# Altium schematic symbol library Schlib_Altera.SchLib: 17 symbols (part 3 of 4)
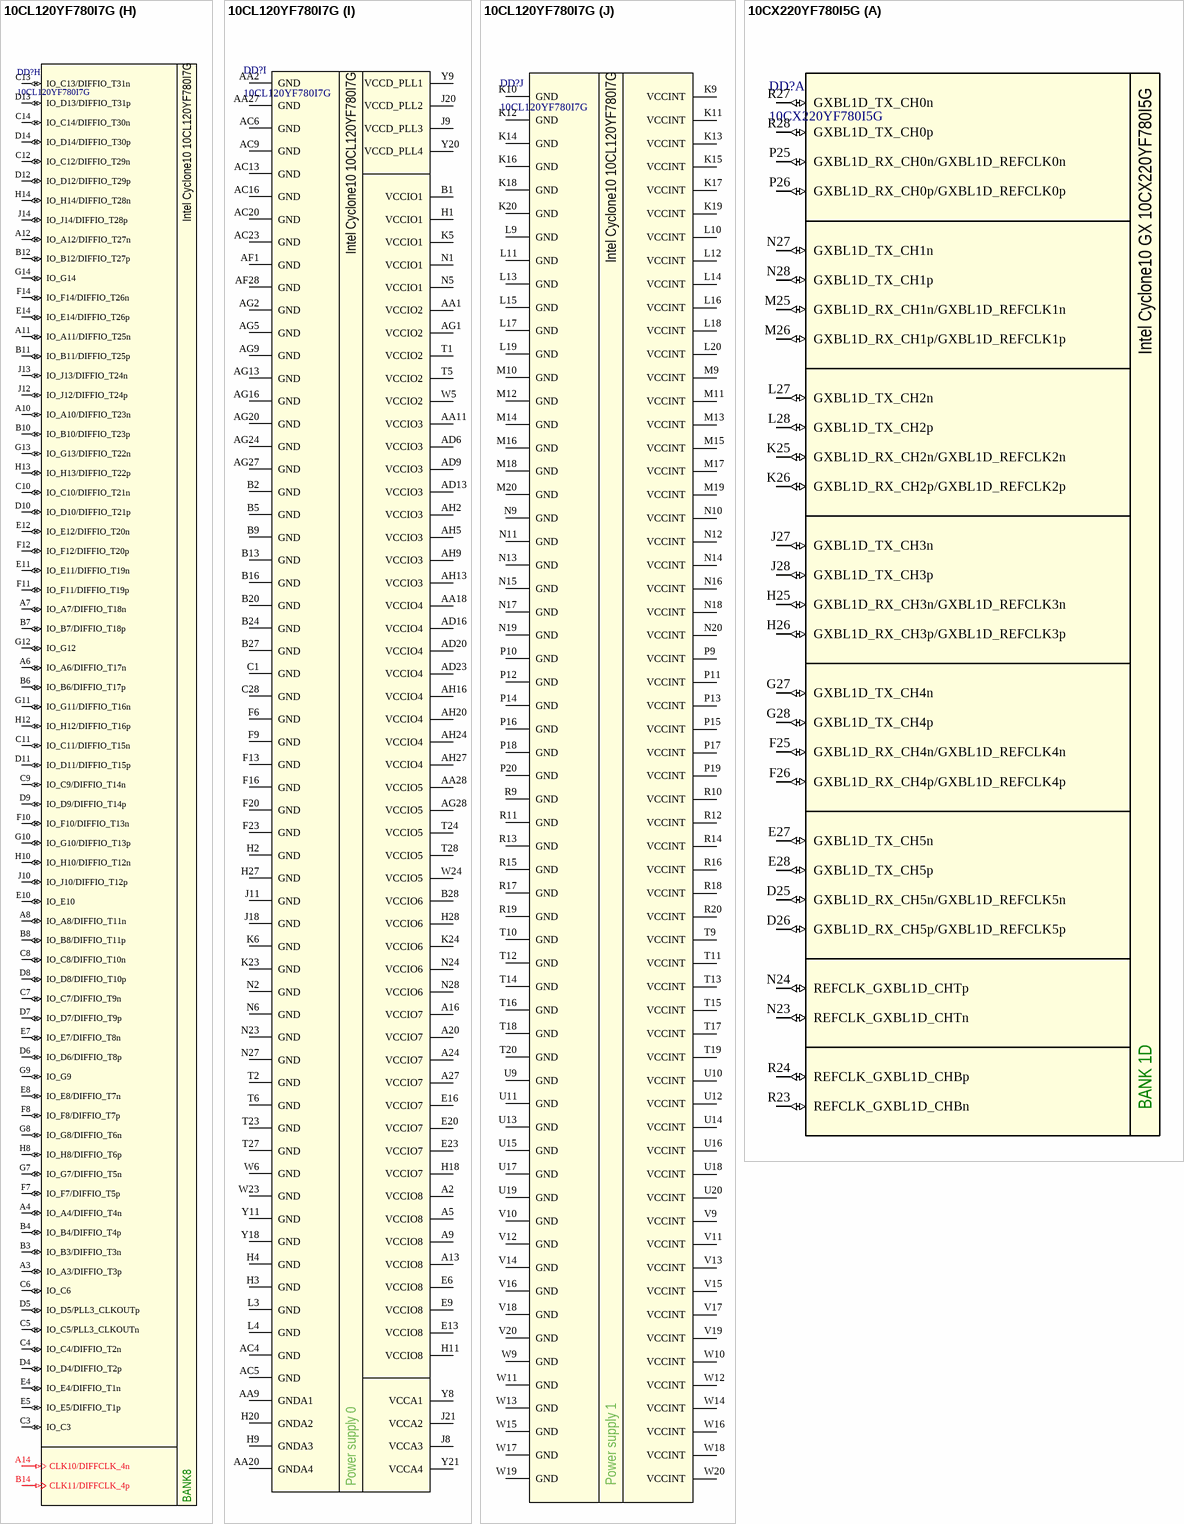
[diagram p26: symbols 10CL120YF780I7G to 10CX220YF780I5G]

## 10CL120YF780I7G
designator DD?
Intel Cyclone 10 FPGA with 120k LEs; Manufacturer: Altera/Intel; Package: FBGA-780; Part Number: 10CL120YF780I7G
footprint FBGA-780 (BGA, 780-Balls, Body 29x29mm, Pitch 1mm)
part A pins: C2 IO_C2/DIFFIO_L1n (io), D1 IO_D1/DIFFIO_L2n (io), D2 IO_D2/DIFFIO_L2p (io), D3 IO_D3/DIFFIO_L1p (io), E1 IO_E1/DIFFIO_L8n (io), E2 IO_E2/DIFFIO_L8p (io), E3 IO_E3/DIFFIO_L4p (io), F1 IO_F1/DIFFIO_L9n (io), F2 IO_F2/DIFFIO_L9p (io), F3 IO_F3/DIFFIO_L4n (io), F4 IO_F4/DIFFIO_L5n (io), F5 IO_F5/DIFFIO_L5p (io), G1 IO_G1/DIFFIO_L11n (io), G2 IO_G2/DIFFIO_L11p (io), G3 IO_G3/DIFFIO_L6n (io), G4 IO_G4/DIFFIO_L6p (io), G5 IO_G5/DIFFIO_L3n (io), G6 IO_G6/DIFFIO_L3p (io), H5 IO_H5 (io), H6 IO_H6 (io), H7 IO_H7 (io), J1 CLK1/DIFFCLK_0n (in), J2 CLK0/DIFFCLK_0p (in), J3 IO_J3/DIFFIO_L10n (io), J4 IO_J4/DIFFIO_L10p (io), J5 IO_J5/DIFFIO_L16n (io), J6 IO_J6/DIFFIO_L16p (io), J7 IO_J7/DIFFIO_L17p (io), K1 IO_K1/DIFFIO_L12n (io), K2 IO_K2/DIFFIO_L12p (io), K3 IO_K3/DIFFIO_L13n (io), K4 IO_K4/DIFFIO_L13p (io), K7 IO_K7/DIFFIO_L17n (io), K8 IO_K8/DIFFIO_L18p (io), L1 IO_L1/DIFFIO_L22n (io), L2 IO_L2/DIFFIO_L22p (io), L5 IO_L5 (io), L6 IO_L6/DIFFIO_L19n (io), L7 IO_L7/DIFFIO_L19p (io), L8 IO_L8/DIFFIO_L18n (io), M1 IO_M1/DIFFIO_L23n (io), M2 IO_M2/DIFFIO_L23p (io), M3 IO_M3/DIFFIO_L15n (io), M4 IO_M4/DIFFIO_L15p (io), M5 IO_M5 (io), M6 nSTATUS (io), M7 IO_M7/DIFFIO_L21n (io), M8 IO_M8/DIFFIO_L21p (io), N3 IO_N3/DIFFIO_L20n (io), N4 IO_N4/DIFFIO_L20p (io), N7 IO_N7/DATA0 (io), N8 IO_N8 (io), P1 IO_P1/DIFFIO_L24n (io), P2 IO_P2/DIFFIO_L24p (io), P3 IO_P3/DCLK (io), P4 nCONFIG (io), P5 TCK (io), P6 TDO (io), P7 TDI (io), P8 TMS (io), R8 nCE (io)
part B pins: AA3 IO_AA3/DIFFIO_L40n (io), AA4 IO_AA4/DIFFIO_L40p (io), AA5 IO_AA5/DIFFIO_L47n (io), AA6 IO_AA6/DIFFIO_L47p (io), AA7 IO_AA7 (io), AB1 IO_AB1/DIFFIO_L33n (io), AB2 IO_AB2/DIFFIO_L33p (io), AB3 IO_AB3 (io), AB4 IO_AB4 (io), AB5 IO_AB5/DIFFIO_L50n (io), AB6 IO_AB6/DIFFIO_L50p (io), AC1 IO_AC1/DIFFIO_L37n (io), AC2 IO_AC2/DIFFIO_L37p (io), AC3 IO_AC3/DIFFIO_L38p (io), AD1 IO_AD1/DIFFIO_L39n (io), AD2 IO_AD2/DIFFIO_L39p (io), AD3 IO_AD3/DIFFIO_L38n (io), AE1 IO_AE1/DIFFIO_L41n (io), AE2 IO_AE2/DIFFIO_L41p (io), AE3 IO_AE3/DIFFIO_L48p (io), AF2 IO_AF2/DIFFIO_L48n (io), R1 IO_R1/DIFFIO_L25n (io), R2 IO_R2/DIFFIO_L25p (io), R3 IO_R3/DIFFIO_L28p (io), R4 IO_R4/DIFFIO_L28n (io), R5 IO_R5 (io), R6 IO_R6/DIFFIO_L26n (io), R7 IO_R7/DIFFIO_L26p (io), T3 IO_T3/DIFFIO_L29n (io), T4 IO_T4/DIFFIO_L29p (io), T7 IO_T7 (io), T8 IO_T8 (io), U1 IO_U1/DIFFIO_L30n (io), U2 IO_U2/DIFFIO_L30p (io), U3 IO_U3/DIFFIO_L27p (io), U4 IO_U4/DIFFIO_L27n (io), U5 IO_U5/DIFFIO_L35n (io), U6 IO_U6/DIFFIO_L35p (io), U7 IO_U7 (io), U8 IO_U8 (io), V1 IO_V1/DIFFIO_L32n (io), V2 IO_V2/DIFFIO_L32p (io), V3 IO_V3/DIFFIO_L31n (io), V4 IO_V4/DIFFIO_L31p (io), V5 IO_V5/DIFFIO_L42n (io), V6 IO_V6/DIFFIO_L42p (io), V7 IO_V7/DIFFIO_L43n (io), V8 IO_V8/DIFFIO_L43p (io), W1 IO_W1/DIFFIO_L34n (io), W2 IO_W2/DIFFIO_L34p (io), W3 IO_W3/DIFFIO_L44n (io), W4 IO_W4/DIFFIO_L44p (io), W7 IO_W7 (io), W8 IO_W8/DIFFIO_L46p (io), Y1 CLK3/DIFFCLK_1n (in), Y2 CLK2/DIFFCLK_1p (in), Y3 IO_Y3/DIFFIO_L36n (io), Y4 IO_Y4/DIFFIO_L36p (io), Y5 IO_Y5/DIFFIO_L45n (io), Y6 IO_Y6/DIFFIO_L45p (io), Y7 IO_Y7/DIFFIO_L46n (io)
part C pins: AA8 IO_AA8/DIFFIO_B11p (io), AA10 IO_AA10/DIFFIO_B11n (io), AA12 IO_AA12/DIFFIO_B25n (io), AA13 IO_AA13/DIFFIO_B26n (io), AA14 IO_AA14/DIFFIO_B27p (io), AB7 IO_AB7/DIFFIO_B10p (io), AB8 IO_AB8/DIFFIO_B8n (io), AB9 IO_AB9/DIFFIO_B8p (io), AB10 IO_AB10/DIFFIO_B19p (io), AB11 IO_AB11 (io), AB12 IO_AB12/DIFFIO_B22n (io), AB13 IO_AB13 (io), AB14 IO_AB14/DIFFIO_B27n (io), AC7 IO_AC7/DIFFIO_B6n (io), AC8 IO_AC8/DIFFIO_B10n (io), AC10 IO_AC10/DIFFIO_B19n (io), AC11 IO_AC11/DIFFIO_B24p (io), AC12 IO_AC12/DIFFIO_B22p (io), AC14 IO_AC14/DIFFIO_B29p (io), AD4 IO_AD4/DIFFIO_B2p (io), AD5 IO_AD5/DIFFIO_B1p (io), AD7 IO_AD7 (io), AD8 IO_AD8/DIFFIO_B6p (io), AD10 IO_AD10 (io), AD11 IO_AD11/DIFFIO_B24n (io), AD12 IO_AD12 (io), AD14 IO_AD14/DIFFIO_B29n (io), AE4 IO_AE4/DIFFIO_B3p (io), AE5 IO_AE5 (io), AE6 IO_AE6/DIFFIO_B1n (io), AE7 IO_AE7/DIFFIO_B13p (io), AE8 IO_AE8/DIFFIO_B14p (io), AE9 IO_AE9 (io), AE10 IO_AE10/DIFFIO_B15p (io), AE11 IO_AE11/DIFFIO_B18p (io), AE12 IO_AE12/DIFFIO_B17p (io), AE13 IO_AE13/DIFFIO_B21p (io), AE14 IO_AE14/DIFFIO_B23p (io), AF3 IO_AF3/DIFFIO_B4n (io), AF4 IO_AF4/DIFFIO_B2n (io), AF5 IO_AF5 (io), AF6 IO_AF6 (io), AF7 IO_AF7/DIFFIO_B13n (io), AF8 IO_AF8/DIFFIO_B14n (io), AF9 IO_AF9 (io), AF10 IO_AF10/DIFFIO_B15n (io), AF11 IO_AF11/DIFFIO_B18n (io), AF12 IO_AF12/DIFFIO_B17n (io), AF13 IO_AF13/DIFFIO_B21n (io), AF14 IO_AF14/DIFFIO_B23n (io), AG3 IO_AG3/DIFFIO_B3n (io), AG4 IO_AG4/DIFFIO_B5p (io), AG6 IO_AG6/DIFFIO_B7p (io), AG7 IO_AG7/DIFFIO_B9p (io), AG8 IO_AG8/DIFFIO_B12p (io), AG10 IO_AG10/DIFFIO_B16p (io), AG11 IO_AG11/DIFFIO_B20p (io), AG12 IO_AG12/DIFFIO_B28p (io), AG14 CLK15/DIFFCLK_6p (in), AH3 IO_AH3/DIFFIO_B4p (io), AH4 IO_AH4/DIFFIO_B5n (io), AH6 IO_AH6/DIFFIO_B7n (io), AH7 IO_AH7/DIFFIO_B9n (io), AH8 IO_AH8/DIFFIO_B12n (io), AH10 IO_AH10/DIFFIO_B16n (io), AH11 IO_AH11/DIFFIO_B20n (io), AH12 IO_AH12/DIFFIO_B28n (io), AH14 CLK14/DIFFCLK_6n (in), Y10 IO_Y10 (io), Y12 IO_Y12/DIFFIO_B25p (io), Y13 IO_Y13/DIFFIO_B26p (io), Y14 IO_Y14/DIFFIO_B30p (io), Y15 IO_Y15/DIFFIO_B30n (io)
part D pins: AA15 IO_AA15 (io), AA16 IO_AA16/DIFFIO_B35p (io), AA17 IO_AA17/RUP2 (io), AA19 IO_AA19/DIFFIO_B56n (io), AA21 IO_AA21 (io), AB15 IO_AB15 (io), AB16 IO_AB16/DIFFIO_B35n (io), AB17 IO_AB17/RDN2 (io), AB18 IO_AB18/DIFFIO_B53n (io), AB19 IO_AB19/DIFFIO_B53p (io), AB20 IO_AB20 (io), AB21 IO_AB21/DIFFIO_B57n (io), AB22 IO_AB22/DIFFIO_B57p (io), AC15 IO_AC15/DIFFIO_B31p (io), AC17 IO_AC17/DIFFIO_B39p (io), AC18 IO_AC18 (io), AC19 IO_AC19/DIFFIO_B50p (io), AC21 IO_AC21/DIFFIO_B55p (io), AC22 IO_AC22/DIFFIO_B58p (io), AD15 IO_AD15/DIFFIO_B31n (io), AD17 IO_AD17/DIFFIO_B39n (io), AD18 IO_AD18 (io), AD19 IO_AD19/DIFFIO_B50n (io), AD21 IO_AD21/DIFFIO_B55n (io), AD22 IO_AD22/DIFFIO_B58n (io), AD24 IO_AD24 (io), AD25 IO_AD25/DIFFIO_B54p (io), AE15 IO_AE15/DIFFIO_B32p (io), AE16 IO_AE16/DIFFIO_B34p (io), AE17 IO_AE17/DIFFIO_B36p (io), AE18 IO_AE18/DIFFIO_B41p (io), AE19 IO_AE19/DIFFIO_B44p (io), AE20 IO_AE20/DIFFIO_B46p (io), AE21 IO_AE21/DIFFIO_B47p (io), AE22 IO_AE22/DIFFIO_B52p (io), AE23 IO_AE23 (io), AE24 IO_AE24/DIFFIO_B54n (io), AE25 IO_AE25/DIFFIO_B48p (io), AF15 IO_AF15/DIFFIO_B32n (io), AF16 IO_AF16/DIFFIO_B34n (io), AF17 IO_AF17/DIFFIO_B36n (io), AF18 IO_AF18/DIFFIO_B41n (io), AF19 IO_AF19/DIFFIO_B44n (io), AF20 IO_AF20/DIFFIO_B46n (io), AF21 IO_AF21/DIFFIO_B47n (io), AF22 IO_AF22/DIFFIO_B52n (io), AF23 IO_AF23 (io), AF24 IO_AF24/DIFFIO_B45p (io), AF25 IO_AF25/DIFFIO_B45n (io), AF26 IO_AF26/DIFFIO_B48n (io), AG15 CLK13/DIFFCLK_7p (in), AG17 IO_AG17/DIFFIO_B33p (io), AG18 IO_AG18/DIFFIO_B37p (io), AG19 IO_AG19/DIFFIO_B38p (io), AG21 IO_AG21/DIFFIO_B40p (io), AG22 IO_AG22/DIFFIO_B42p (io), AG23 IO_AG23/DIFFIO_B43p (io), AG25 IO_AG25/DIFFIO_B49p (io), AG26 IO_AG26/DIFFIO_B59p (io), AH15 CLK12/DIFFCLK_7n (in), AH17 IO_AH17/DIFFIO_B33n (io), AH18 IO_AH18/DIFFIO_B37n (io), AH19 IO_AH19/DIFFIO_B38n (io), AH21 IO_AH21/DIFFIO_B40n (io), AH22 IO_AH22/DIFFIO_B42n (io), AH23 IO_AH23/DIFFIO_B43n (io), AH25 IO_AH25/DIFFIO_B49n (io), AH26 IO_AH26/DIFFIO_B59n (io), Y16 IO_Y16/DIFFIO_B51n (io), Y17 IO_Y17/DIFFIO_B51p (io), Y19 IO_Y19/DIFFIO_B56p (io)
part E pins: AA22 IO_AA22/RUP3 (io), AA23 IO_AA23 (io), AA24 IO_AA24 (io), AA25 IO_AA25/DIFFIO_R43p (io), AA26 IO_AA26/DIFFIO_R43n (io), AB23 IO_AB23/RDN3 (io), AB24 IO_AB24 (io), AB25 IO_AB25/DIFFIO_R44p (io), AB26 IO_AB26/DIFFIO_R44n (io), AB27 IO_AB27/DIFFIO_R42p (io), AB28 IO_AB28/DIFFIO_R42n (io), AC24 IO_AC24/DIFFIO_R51p (io), AC25 IO_AC25/DIFFIO_R51n (io), AC26 IO_AC26/DIFFIO_R49p (io), AC27 IO_AC27/DIFFIO_R45p (io), AC28 IO_AC28/DIFFIO_R45n (io), AD26 IO_AD26/DIFFIO_R49n (io), AD27 IO_AD27/DIFFIO_R47p (io), AD28 IO_AD28/DIFFIO_R47n (io), AE26 IO_AE26/DIFFIO_R50p (io), AE27 IO_AE27/DIFFIO_R48p (io), AE28 IO_AE28/DIFFIO_R48n (io), AF27 IO_AF27/DIFFIO_R50n (io), P21 IO_P21/DIFFIO_R25p (io), R21 IO_R21/DIFFIO_R25n (io), R22 IO_R22/DIFFIO_R26p (io), R23 IO_R23/DIFFIO_R26n (io), R24 IO_R24 (io), R25 IO_R25/DIFFIO_R28p (io), R26 IO_R26/DIFFIO_R28n (io), R27 IO_R27/DIFFIO_R27p (io), R28 IO_R28/DIFFIO_R27n (io), T21 IO_T21/DIFFIO_R29p (io), T22 IO_T22/DIFFIO_R29n (io), T25 IO_T25/DIFFIO_R30p (io), T26 IO_T26/DIFFIO_R30n (io), U21 IO_U21 (io), U22 IO_U22/DIFFIO_R34p (io), U23 IO_U23 (io), U24 IO_U24 (io), U25 IO_U25/DIFFIO_R33p (io), U26 IO_U26/DIFFIO_R33n (io), U27 IO_U27/DIFFIO_R32p (io), U28 IO_U28/DIFFIO_R32n (io), V21 IO_V21/DIFFIO_R35p (io), V22 IO_V22/DIFFIO_R34n (io), V23 IO_V23/DIFFIO_R36p (io), V24 IO_V24/DIFFIO_R36n (io), V25 IO_V25/DIFFIO_R37p (io), V26 IO_V26/DIFFIO_R37n (io), V27 IO_V27/DIFFIO_R38p (io), V28 IO_V28/DIFFIO_R38n (io), W21 IO_W21/DIFFIO_R35n (io), W22 IO_W22/DIFFIO_R31p (io), W25 IO_W25/DIFFIO_R40p (io), W26 IO_W26/DIFFIO_R40n (io), W27 IO_W27/DIFFIO_R39n (io), W28 IO_W28/DIFFIO_R39p (io), Y22 IO_Y22/DIFFIO_R31n (io), Y23 IO_Y23/DIFFIO_R46p (io), Y24 IO_Y24/DIFFIO_R46n (io), Y25 IO_Y25/DIFFIO_R41p (io), Y26 IO_Y26/DIFFIO_R41n (io), Y27 CLK6/DIFFCLK_3p (in), Y28 CLK7/DIFFCLK_3n (in)
part F pins: C27 IO_C27/DIFFIO_R8n (io), D26 IO_D26/DIFFIO_R8p (io), D27 IO_D27/DIFFIO_R9p (io), D28 IO_D28/DIFFIO_R9n (io), E26 IO_E26/DIFFIO_R10n (io), E27 IO_E27/DIFFIO_R12p (io), E28 IO_E28/DIFFIO_R12n (io), F24 IO_F24/DIFFIO_R2p (io), F25 IO_F25/DIFFIO_R2n (io), F26 IO_F26/DIFFIO_R10p (io), F27 IO_F27/DIFFIO_R13p (io), F28 IO_F28/DIFFIO_R13n (io), G23 IO_G23/DIFFIO_R1p (io), G24 IO_G24/DIFFIO_R1n (io), G25 IO_G25/DIFFIO_R3p (io), G26 IO_G26/DIFFIO_R3n (io), G27 IO_G27/DIFFIO_R15p (io), G28 IO_G28/DIFFIO_R15n (io), H22 IO_H22 (io), H23 IO_H23/DIFFIO_R4p (io), H24 IO_H24/DIFFIO_R4n (io), H25 IO_H25/DIFFIO_R11p (io), H26 IO_H26/DIFFIO_R11n (io), J22 IO_J22 (io), J23 IO_J23/DIFFIO_R6p (io), J24 IO_J24/DIFFIO_R6n (io), J25 IO_J25/DIFFIO_R16p (io), J26 IO_J26/DIFFIO_R16n (io), J27 CLK4/DIFFCLK_2p (in), J28 CLK5/DIFFCLK_2n (in), K21 IO_K21/DIFFIO_R5p (io), K22 IO_K22/DIFFIO_R5n (io), K25 IO_K25/DIFFIO_R14p (io), K26 IO_K26/DIFFIO_R14n (io), K27 IO_K27/DIFFIO_R17p (io), K28 IO_K28/DIFFIO_R17n (io), L21 IO_L21/DIFFIO_R7p (io), L22 IO_L22/DIFFIO_R7n (io), L23 IO_L23/DIFFIO_R18p (io), L24 IO_L24/DIFFIO_R18n (io), L25 IO_L25 (io), L26 IO_L26 (io), L27 IO_L27/DIFFIO_R19p (io), L28 IO_L28/DIFFIO_R19n (io), M21 IO_M21 (io), M22 MSEL2 (in), M23 IO_M23 (io), M24 IO_M24 (io), M25 IO_M25/DIFFIO_R20p (io), M26 IO_M26/DIFFIO_R20n (io), M27 IO_M27/DIFFIO_R21p (io), M28 IO_M28/DIFFIO_R21n (io), N21 IO_N21 (io), N22 MSEL0 (in), N25 IO_N25/DIFFIO_R22p (io), N26 IO_N26/DIFFIO_R22n (io), P22 MSEL3 (in), P23 MSEL1 (in), P24 CONF_DONE (out), P25 IO_P25/CRC_ERROR (io), P26 IO_P26/INIT_DONE (io), P27 IO_P27/DIFFIO_R23p (io), P28 IO_P28/DIFFIO_R23n (io)
part G pins: A15 CLK8/DIFFCLK_5n (in), A17 IO_A17/DIFFIO_T35n (io), A18 IO_A18/DIFFIO_T44n (io), A19 IO_A19/DIFFIO_T45n (io), A21 IO_A21/DIFFIO_T52n (io), A22 IO_A22/DIFFIO_T53n (io), A23 IO_A23/DIFFIO_T56n (io), A25 IO_A25/DIFFIO_T59p (io), A26 IO_A26/DIFFIO_T59n (io), B15 CLK9/DIFFCLK_5p (in), B17 IO_B17/DIFFIO_T35p (io), B18 IO_B18/DIFFIO_T44p (io), B19 IO_B19/DIFFIO_T45p (io), B21 IO_B21/DIFFIO_T52p (io), B22 IO_B22/DIFFIO_T53p (io), B23 IO_B23/DIFFIO_T56p (io), B25 IO_B25 (io), B26 IO_B26/DIFFIO_T61p (io), C15 IO_C15/DIFFIO_T32n (io), C16 IO_C16/DIFFIO_T36n (io), C17 IO_C17/DIFFIO_T46n (io), C18 IO_C18/DIFFIO_T50n (io), C19 IO_C19/DIFFIO_T47n (io), C20 IO_C20/DIFFIO_T49n (io), C21 IO_C21 (io), C22 IO_C22/DIFFIO_T54n (io), C23 IO_C23 (io), C24 IO_C24/DIFFIO_T55n (io), C25 IO_C25/DIFFIO_T57p (io), C26 IO_C26/DIFFIO_T61n (io), D15 IO_D15/DIFFIO_T32p (io), D16 IO_D16/DIFFIO_T36p (io), D17 IO_D17/DIFFIO_T46p (io), D18 IO_D18/DIFFIO_T50p (io), D19 IO_D19/DIFFIO_T47p (io), D20 IO_D20/DIFFIO_T49p (io), D21 IO_D21/DIFFIO_T54p (io), D22 IO_D22/DIFFIO_T60n (io), D23 IO_D23 (io), D24 IO_D24/DIFFIO_T55p (io), D25 IO_D25/DIFFIO_T57n (io), E15 IO_E15/DIFFIO_T33p (io), E17 IO_E17/DIFFIO_T38p (io), E18 IO_E18/DIFFIO_T51n (io), E19 IO_E19/RDN4 (io), E21 IO_E21/DIFFIO_T58n (io), E22 IO_E22/DIFFIO_T60p (io), E24 IO_E24/DIFFIO_T48n (io), E25 IO_E25/DIFFIO_T48p (io), F15 IO_F15/DIFFIO_T33n (io), F17 IO_F17/DIFFIO_T38n (io), F18 IO_F18/DIFFIO_T51p (io), F19 IO_F19/RUP4 (io), F21 IO_F21/DIFFIO_T58p (io), F22 IO_F22 (io), G15 IO_G15 (io), G16 IO_G16/DIFFIO_T39n (io), G17 IO_G17 (io), G18 IO_G18/DIFFIO_T40p (io), G19 IO_G19/DIFFIO_T40n (io), G20 IO_G20/DIFFIO_T43n (io), G21 IO_G21/DIFFIO_T43p (io), G22 IO_G22/DIFFIO_T41p (io), H15 IO_H15/DIFFIO_T34n (io), H16 IO_H16/DIFFIO_T37p (io), H17 IO_H17/DIFFIO_T39p (io), H19 IO_H19/DIFFIO_T42n (io), H21 IO_H21/DIFFIO_T41n (io), J15 IO_J15/DIFFIO_T34p (io), J16 IO_J16/DIFFIO_T37n (io), J17 IO_J17 (io), J19 IO_J19/DIFFIO_T42p (io)
part H pins: A3 IO_A3/DIFFIO_T3p (io), A4 IO_A4/DIFFIO_T4n (io), A6 IO_A6/DIFFIO_T17n (io), A7 IO_A7/DIFFIO_T18n (io), A8 IO_A8/DIFFIO_T11n (io), A10 IO_A10/DIFFIO_T23n (io), A11 IO_A11/DIFFIO_T25n (io), A12 IO_A12/DIFFIO_T27n (io), A14 CLK10/DIFFCLK_4n (in), B3 IO_B3/DIFFIO_T3n (io), B4 IO_B4/DIFFIO_T4p (io), B6 IO_B6/DIFFIO_T17p (io), B7 IO_B7/DIFFIO_T18p (io), B8 IO_B8/DIFFIO_T11p (io), B10 IO_B10/DIFFIO_T23p (io), B11 IO_B11/DIFFIO_T25p (io), B12 IO_B12/DIFFIO_T27p (io), B14 CLK11/DIFFCLK_4p (in), C3 IO_C3 (io), C4 IO_C4/DIFFIO_T2n (io), C5 IO_C5/PLL3_CLKOUTn (io), C6 IO_C6 (io), C7 IO_C7/DIFFIO_T9n (io), C8 IO_C8/DIFFIO_T10n (io), C9 IO_C9/DIFFIO_T14n (io), C10 IO_C10/DIFFIO_T21n (io), C11 IO_C11/DIFFIO_T15n (io), C12 IO_C12/DIFFIO_T29n (io), C13 IO_C13/DIFFIO_T31n (io), C14 IO_C14/DIFFIO_T30n (io), D4 IO_D4/DIFFIO_T2p (io), D5 IO_D5/PLL3_CLKOUTp (io), D6 IO_D6/DIFFIO_T8p (io), D7 IO_D7/DIFFIO_T9p (io), D8 IO_D8/DIFFIO_T10p (io), D9 IO_D9/DIFFIO_T14p (io), D10 IO_D10/DIFFIO_T21p (io), D11 IO_D11/DIFFIO_T15p (io), D12 IO_D12/DIFFIO_T29p (io), D13 IO_D13/DIFFIO_T31p (io), D14 IO_D14/DIFFIO_T30p (io), E4 IO_E4/DIFFIO_T1n (io), E5 IO_E5/DIFFIO_T1p (io), E7 IO_E7/DIFFIO_T8n (io), E8 IO_E8/DIFFIO_T7n (io), E10 IO_E10 (io), E11 IO_E11/DIFFIO_T19n (io), E12 IO_E12/DIFFIO_T20n (io), E14 IO_E14/DIFFIO_T26p (io), F7 IO_F7/DIFFIO_T5p (io), F8 IO_F8/DIFFIO_T7p (io), F10 IO_F10/DIFFIO_T13n (io), F11 IO_F11/DIFFIO_T19p (io), F12 IO_F12/DIFFIO_T20p (io), F14 IO_F14/DIFFIO_T26n (io), G7 IO_G7/DIFFIO_T5n (io), G8 IO_G8/DIFFIO_T6n (io), G9 IO_G9 (io), G10 IO_G10/DIFFIO_T13p (io), G11 IO_G11/DIFFIO_T16n (io), G12 IO_G12 (io), G13 IO_G13/DIFFIO_T22n (io), G14 IO_G14 (io), H8 IO_H8/DIFFIO_T6p (io), H10 IO_H10/DIFFIO_T12n (io), H12 IO_H12/DIFFIO_T16p (io), H13 IO_H13/DIFFIO_T22p (io), H14 IO_H14/DIFFIO_T28n (io), J10 IO_J10/DIFFIO_T12p (io), J12 IO_J12/DIFFIO_T24p (io), J13 IO_J13/DIFFIO_T24n (io), J14 IO_J14/DIFFIO_T28p (io)
part I pins: A2 VCCIO8 (power), A5 VCCIO8 (power), A9 VCCIO8 (power), A13 VCCIO8 (power), A16 VCCIO7 (power), A20 VCCIO7 (power), A24 VCCIO7 (power), A27 VCCIO7 (power), AA1 VCCIO2 (power), AA2 GND (power), AA9 GNDA1 (power), AA11 VCCIO3 (power), AA18 VCCIO4 (power), AA20 GNDA4 (power), AA27 GND (power), AA28 VCCIO5 (power), AC4 GND (power), AC5 GND (power), AC6 GND (power), AC9 GND (power), AC13 GND (power), AC16 GND (power), AC20 GND (power), AC23 GND (power), AD6 VCCIO3 (power), AD9 VCCIO3 (power), AD13 VCCIO3 (power), AD16 VCCIO4 (power), AD20 VCCIO4 (power), AD23 VCCIO4 (power), AF1 GND (power), AF28 GND (power), AG1 VCCIO2 (power), AG2 GND (power), AG5 GND (power), AG9 GND (power), AG13 GND (power), AG16 GND (power), AG20 GND (power), AG24 GND (power), AG27 GND (power), AG28 VCCIO5 (power), AH2 VCCIO3 (power), AH5 VCCIO3 (power), AH9 VCCIO3 (power), AH13 VCCIO3 (power), AH16 VCCIO4 (power), AH20 VCCIO4 (power), AH24 VCCIO4 (power), AH27 VCCIO4 (power), B1 VCCIO1 (power), B2 GND (power), B5 GND (power), B9 GND (power), B13 GND (power), B16 GND (power), B20 GND (power), B24 GND (power), B27 GND (power), B28 VCCIO6 (power), C1 GND (power), C28 GND (power), E6 VCCIO8 (power), E9 VCCIO8 (power), E13 VCCIO8 (power), E16 VCCIO7 (power), E20 VCCIO7 (power), E23 VCCIO7 (power), F6 GND (power), F9 GND (power), F13 GND (power), F16 GND (power), F20 GND (power), F23 GND (power), H1 VCCIO1 (power), H2 GND (power), H3 GND (power), H4 GND (power), H9 GNDA3 (power), H11 VCCIO8 (power), H18 VCCIO7 (power), H20 GNDA2 (power), H27 GND (power), H28 VCCIO6 (power), J8 VCCA3 (power), J9 VCCD_PLL3 (power), J11 GND (power), J18 GND (power), J20 VCCD_PLL2 (power), J21 VCCA2 (power), K5 VCCIO1 (power), K6 GND (power), K23 GND (power), K24 VCCIO6 (power), L3 GND (power), L4 GND (power), N1 VCCIO1 (power), N2 GND (power), N5 VCCIO1 (power), N6 GND (power), N23 GND (power), N24 VCCIO6 (power), N27 GND (power), N28 VCCIO6 (power), T1 VCCIO2 (power), T2 GND (power), T5 VCCIO2 (power), T6 GND (power), T23 GND (power), T24 VCCIO5 (power), T27 GND (power), T28 VCCIO5 (power), W5 VCCIO2 (power), W6 GND (power), W23 GND (power), W24 VCCIO5 (power), Y8 VCCA1 (power), Y9 VCCD_PLL1 (power), Y11 GND (power), Y18 GND (power), Y20 VCCD_PLL4 (power), Y21 VCCA4 (power)
part J pins: K9 VCCINT (power), K10 GND (power), K11 VCCINT (power), K12 GND (power), K13 VCCINT (power), K14 GND (power), K15 VCCINT (power), K16 GND (power), K17 VCCINT (power), K18 GND (power), K19 VCCINT (power), K20 GND (power), L9 GND (power), L10 VCCINT (power), L11 GND (power), L12 VCCINT (power), L13 GND (power), L14 VCCINT (power), L15 GND (power), L16 VCCINT (power), L17 GND (power), L18 VCCINT (power), L19 GND (power), L20 VCCINT (power), M9 VCCINT (power), M10 GND (power), M11 VCCINT (power), M12 GND (power), M13 VCCINT (power), M14 GND (power), M15 VCCINT (power), M16 GND (power), M17 VCCINT (power), M18 GND (power), M19 VCCINT (power), M20 GND (power), N9 GND (power), N10 VCCINT (power), N11 GND (power), N12 VCCINT (power), N13 GND (power), N14 VCCINT (power), N15 GND (power), N16 VCCINT (power), N17 GND (power), N18 VCCINT (power), N19 GND (power), N20 VCCINT (power), P9 VCCINT (power), P10 GND (power), P11 VCCINT (power), P12 GND (power), P13 VCCINT (power), P14 GND (power), P15 VCCINT (power), P16 GND (power), P17 VCCINT (power), P18 GND (power), P19 VCCINT (power), P20 GND (power), R9 GND (power), R10 VCCINT (power), R11 GND (power), R12 VCCINT (power), R13 GND (power), R14 VCCINT (power), R15 GND (power), R16 VCCINT (power), R17 GND (power), R18 VCCINT (power), R19 GND (power), R20 VCCINT (power), T9 VCCINT (power), T10 GND (power), T11 VCCINT (power), T12 GND (power), T13 VCCINT (power), T14 GND (power), T15 VCCINT (power), T16 GND (power), T17 VCCINT (power), T18 GND (power), T19 VCCINT (power), T20 GND (power), U9 GND (power), U10 VCCINT (power), U11 GND (power), U12 VCCINT (power), U13 GND (power), U14 VCCINT (power), U15 GND (power), U16 VCCINT (power), U17 GND (power), U18 VCCINT (power), U19 GND (power), U20 VCCINT (power), V9 VCCINT (power), V10 GND (power), V11 VCCINT (power), V12 GND (power), V13 VCCINT (power), V14 GND (power), V15 VCCINT (power), V16 GND (power), V17 VCCINT (power), V18 GND (power), V19 VCCINT (power), V20 GND (power), W9 GND (power), W10 VCCINT (power), W11 GND (power), W12 VCCINT (power), W13 GND (power), W14 VCCINT (power), W15 GND (power), W16 VCCINT (power), W17 GND (power), W18 VCCINT (power), W19 GND (power), W20 VCCINT (power)
part A text: Intel Cyclone10 10CL120YF780I7G; BANK1
part B text: Intel Cyclone10 10CL120YF780I7G; BANK2
part C text: Intel Cyclone10 10CL120YF780I7G; BANK3
part D text: Intel Cyclone10 10CL120YF780I7G; BANK4
part E text: Intel Cyclone10 10CL120YF780I7G; BANK5
part F text: Intel Cyclone10 10CL120YF780I7G; BANK6
part G text: Intel Cyclone10 10CL120YF780I7G; BANK7
part H text: Intel Cyclone10 10CL120YF780I7G; BANK8
part I text: Intel Cyclone10 10CL120YF780I7G; Power supply 0
part J text: Intel Cyclone10 10CL120YF780I7G; Power supply 1

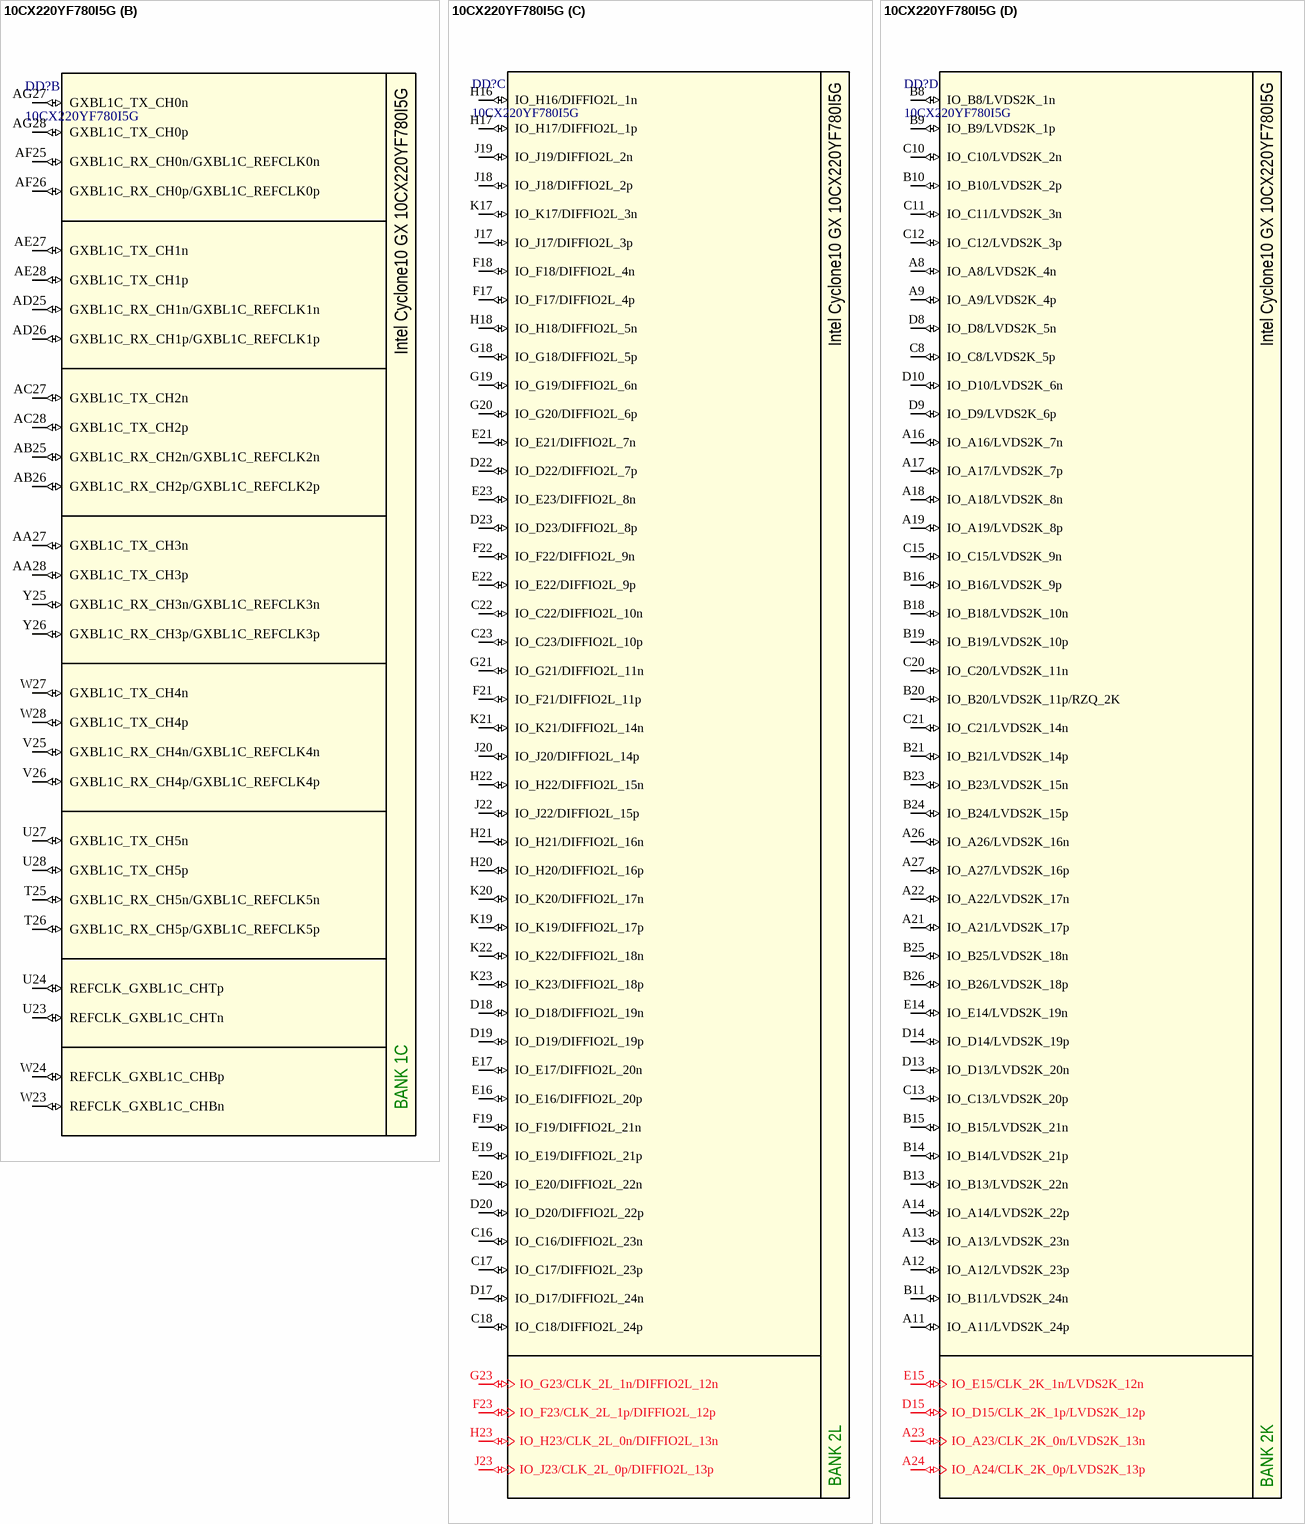
[diagram p17: symbol 10CX220YF780I5G]

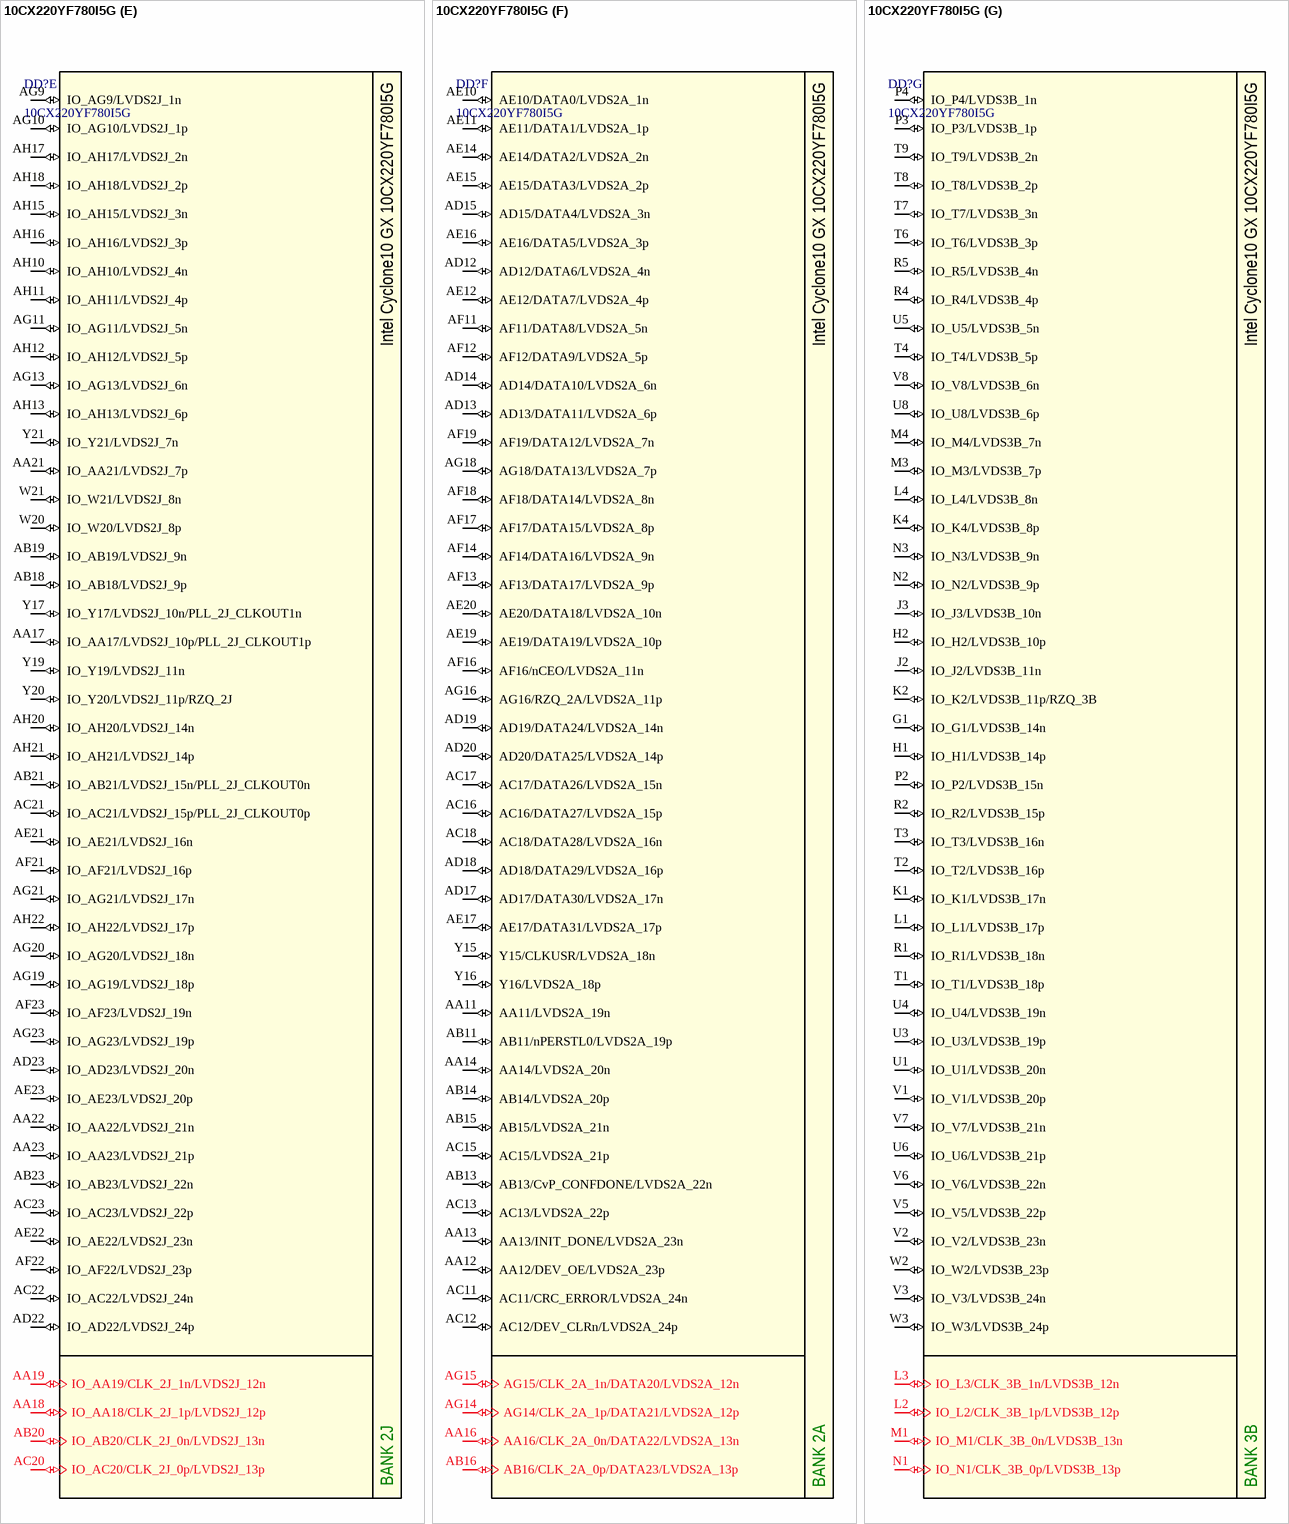
[diagram p18: symbol 10CX220YF780I5G]

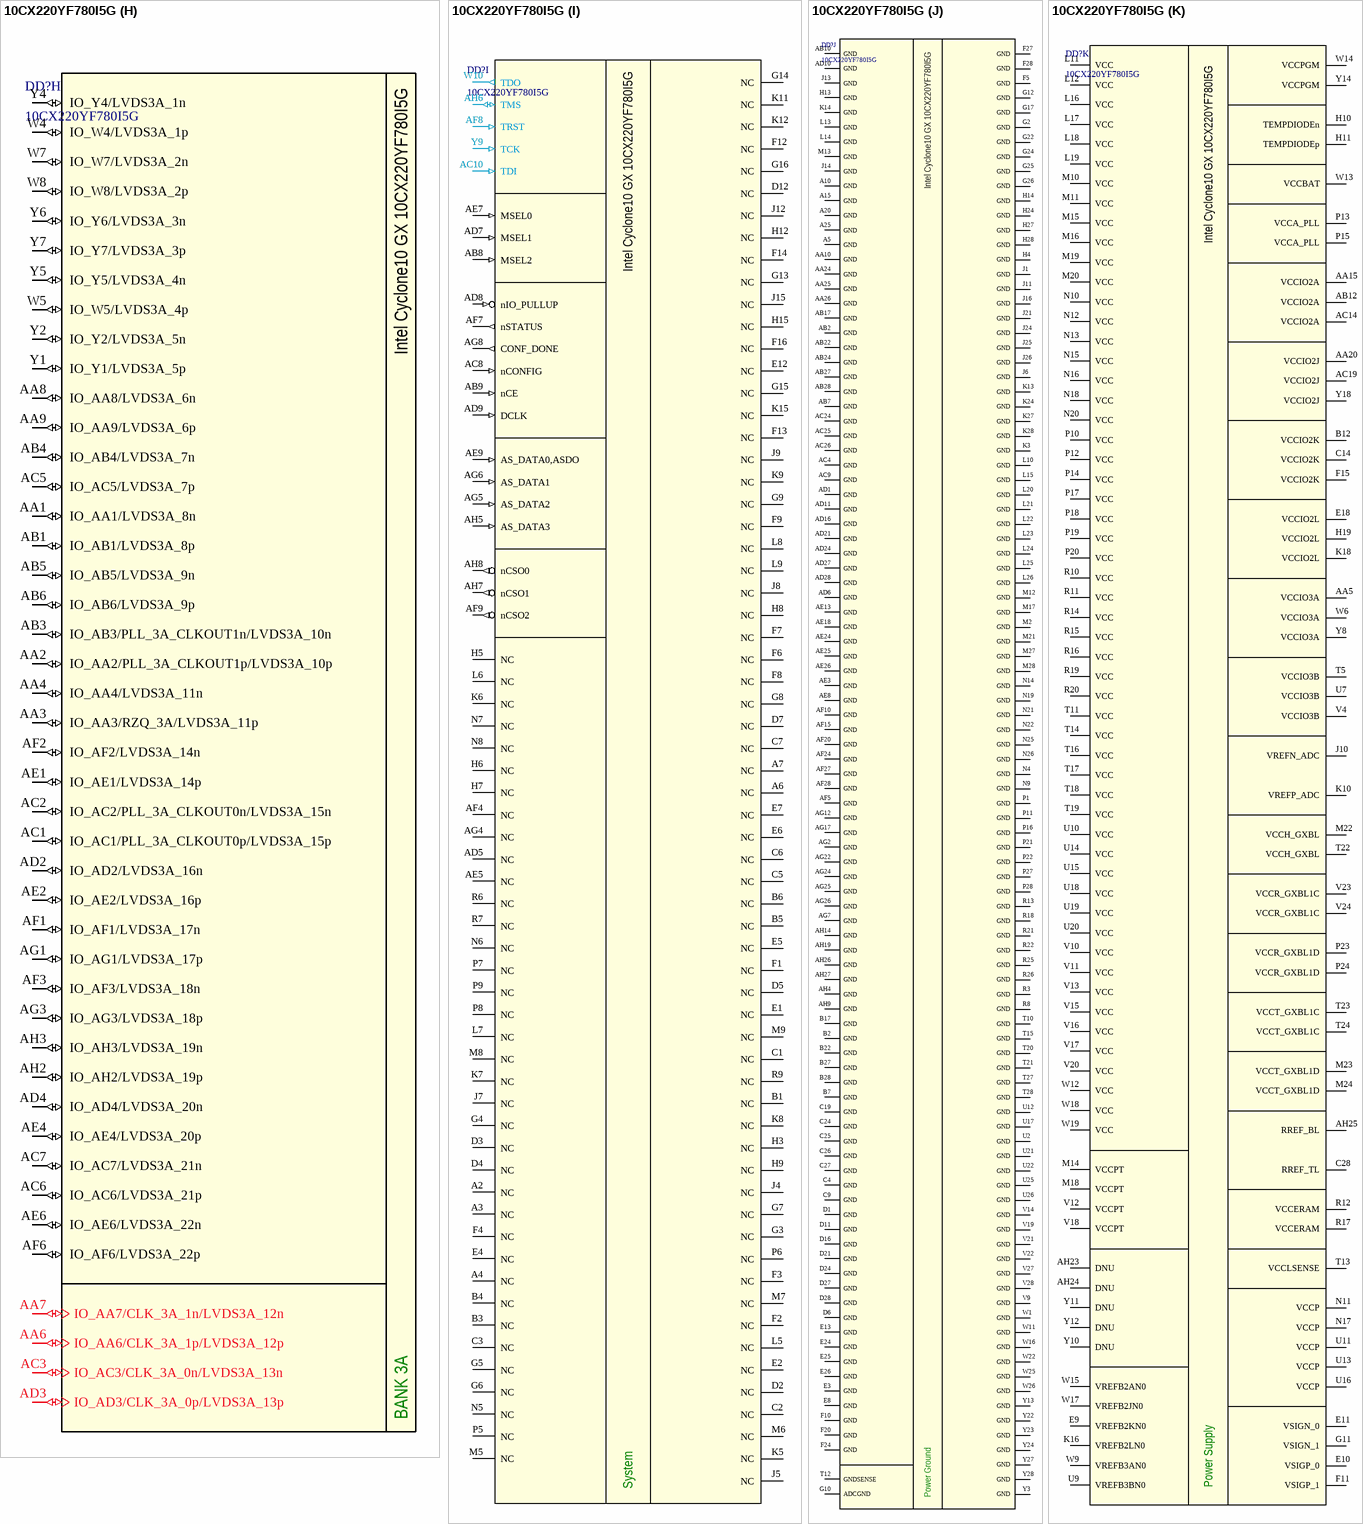
[diagram p19: symbol 10CX220YF780I5G]

## 10CX220YF780I5G
designator DD?
Intel Cyclone 10 FPGA with 220k LEs; Manufacturer: Altera/Intel; Package: FBGA-780; Part Number: 10CX220YF780I5G
footprint FBGA-780 (BGA, 780-Balls, Body 29x29mm, Pitch 1mm)
part A pins: D25 GXBL1D_RX_CH5n/GXBL1D_REFCLK5n (io), D26 GXBL1D_RX_CH5p/GXBL1D_REFCLK5p (io), E27 GXBL1D_TX_CH5n (io), E28 GXBL1D_TX_CH5p (io), F25 GXBL1D_RX_CH4n/GXBL1D_REFCLK4n (io), F26 GXBL1D_RX_CH4p/GXBL1D_REFCLK4p (io), G27 GXBL1D_TX_CH4n (io), G28 GXBL1D_TX_CH4p (io), H25 GXBL1D_RX_CH3n/GXBL1D_REFCLK3n (io), H26 GXBL1D_RX_CH3p/GXBL1D_REFCLK3p (io), J27 GXBL1D_TX_CH3n (io), J28 GXBL1D_TX_CH3p (io), K25 GXBL1D_RX_CH2n/GXBL1D_REFCLK2n (io), K26 GXBL1D_RX_CH2p/GXBL1D_REFCLK2p (io), L27 GXBL1D_TX_CH2n (io), L28 GXBL1D_TX_CH2p (io), M25 GXBL1D_RX_CH1n/GXBL1D_REFCLK1n (io), M26 GXBL1D_RX_CH1p/GXBL1D_REFCLK1p (io), N23 REFCLK_GXBL1D_CHTn (io), N24 REFCLK_GXBL1D_CHTp (io), N27 GXBL1D_TX_CH1n (io), N28 GXBL1D_TX_CH1p (io), P25 GXBL1D_RX_CH0n/GXBL1D_REFCLK0n (io), P26 GXBL1D_RX_CH0p/GXBL1D_REFCLK0p (io), R23 REFCLK_GXBL1D_CHBn (io), R24 REFCLK_GXBL1D_CHBp (io), R27 GXBL1D_TX_CH0n (io), R28 GXBL1D_TX_CH0p (io)
part B pins: AA27 GXBL1C_TX_CH3n (io), AA28 GXBL1C_TX_CH3p (io), AB25 GXBL1C_RX_CH2n/GXBL1C_REFCLK2n (io), AB26 GXBL1C_RX_CH2p/GXBL1C_REFCLK2p (io), AC27 GXBL1C_TX_CH2n (io), AC28 GXBL1C_TX_CH2p (io), AD25 GXBL1C_RX_CH1n/GXBL1C_REFCLK1n (io), AD26 GXBL1C_RX_CH1p/GXBL1C_REFCLK1p (io), AE27 GXBL1C_TX_CH1n (io), AE28 GXBL1C_TX_CH1p (io), AF25 GXBL1C_RX_CH0n/GXBL1C_REFCLK0n (io), AF26 GXBL1C_RX_CH0p/GXBL1C_REFCLK0p (io), AG27 GXBL1C_TX_CH0n (io), AG28 GXBL1C_TX_CH0p (io), T25 GXBL1C_RX_CH5n/GXBL1C_REFCLK5n (io), T26 GXBL1C_RX_CH5p/GXBL1C_REFCLK5p (io), U23 REFCLK_GXBL1C_CHTn (io), U24 REFCLK_GXBL1C_CHTp (io), U27 GXBL1C_TX_CH5n (io), U28 GXBL1C_TX_CH5p (io), V25 GXBL1C_RX_CH4n/GXBL1C_REFCLK4n (io), V26 GXBL1C_RX_CH4p/GXBL1C_REFCLK4p (io), W23 REFCLK_GXBL1C_CHBn (io), W24 REFCLK_GXBL1C_CHBp (io), W27 GXBL1C_TX_CH4n (io), W28 GXBL1C_TX_CH4p (io), Y25 GXBL1C_RX_CH3n/GXBL1C_REFCLK3n (io), Y26 GXBL1C_RX_CH3p/GXBL1C_REFCLK3p (io)
part C pins: C16 IO_C16/DIFFIO2L_23n (io), C17 IO_C17/DIFFIO2L_23p (io), C18 IO_C18/DIFFIO2L_24p (io), C22 IO_C22/DIFFIO2L_10n (io), C23 IO_C23/DIFFIO2L_10p (io), D17 IO_D17/DIFFIO2L_24n (io), D18 IO_D18/DIFFIO2L_19n (io), D19 IO_D19/DIFFIO2L_19p (io), D20 IO_D20/DIFFIO2L_22p (io), D22 IO_D22/DIFFIO2L_7p (io), D23 IO_D23/DIFFIO2L_8p (io), E16 IO_E16/DIFFIO2L_20p (io), E17 IO_E17/DIFFIO2L_20n (io), E19 IO_E19/DIFFIO2L_21p (io), E20 IO_E20/DIFFIO2L_22n (io), E21 IO_E21/DIFFIO2L_7n (io), E22 IO_E22/DIFFIO2L_9p (io), E23 IO_E23/DIFFIO2L_8n (io), F17 IO_F17/DIFFIO2L_4p (io), F18 IO_F18/DIFFIO2L_4n (io), F19 IO_F19/DIFFIO2L_21n (io), F21 IO_F21/DIFFIO2L_11p (io), F22 IO_F22/DIFFIO2L_9n (io), F23 IO_F23/CLK_2L_1p/DIFFIO2L_12p (io), G18 IO_G18/DIFFIO2L_5p (io), G19 IO_G19/DIFFIO2L_6n (io), G20 IO_G20/DIFFIO2L_6p (io), G21 IO_G21/DIFFIO2L_11n (io), G23 IO_G23/CLK_2L_1n/DIFFIO2L_12n (io), H16 IO_H16/DIFFIO2L_1n (io), H17 IO_H17/DIFFIO2L_1p (io), H18 IO_H18/DIFFIO2L_5n (io), H20 IO_H20/DIFFIO2L_16p (io), H21 IO_H21/DIFFIO2L_16n (io), H22 IO_H22/DIFFIO2L_15n (io), H23 IO_H23/CLK_2L_0n/DIFFIO2L_13n (io), J17 IO_J17/DIFFIO2L_3p (io), J18 IO_J18/DIFFIO2L_2p (io), J19 IO_J19/DIFFIO2L_2n (io), J20 IO_J20/DIFFIO2L_14p (io), J22 IO_J22/DIFFIO2L_15p (io), J23 IO_J23/CLK_2L_0p/DIFFIO2L_13p (io), K17 IO_K17/DIFFIO2L_3n (io), K19 IO_K19/DIFFIO2L_17p (io), K20 IO_K20/DIFFIO2L_17n (io), K21 IO_K21/DIFFIO2L_14n (io), K22 IO_K22/DIFFIO2L_18n (io), K23 IO_K23/DIFFIO2L_18p (io)
part D pins: A8 IO_A8/LVDS2K_4n (io), A9 IO_A9/LVDS2K_4p (io), A11 IO_A11/LVDS2K_24p (io), A12 IO_A12/LVDS2K_23p (io), A13 IO_A13/LVDS2K_23n (io), A14 IO_A14/LVDS2K_22p (io), A16 IO_A16/LVDS2K_7n (io), A17 IO_A17/LVDS2K_7p (io), A18 IO_A18/LVDS2K_8n (io), A19 IO_A19/LVDS2K_8p (io), A21 IO_A21/LVDS2K_17p (io), A22 IO_A22/LVDS2K_17n (io), A23 IO_A23/CLK_2K_0n/LVDS2K_13n (io), A24 IO_A24/CLK_2K_0p/LVDS2K_13p (io), A26 IO_A26/LVDS2K_16n (io), A27 IO_A27/LVDS2K_16p (io), B8 IO_B8/LVDS2K_1n (io), B9 IO_B9/LVDS2K_1p (io), B10 IO_B10/LVDS2K_2p (io), B11 IO_B11/LVDS2K_24n (io), B13 IO_B13/LVDS2K_22n (io), B14 IO_B14/LVDS2K_21p (io), B15 IO_B15/LVDS2K_21n (io), B16 IO_B16/LVDS2K_9p (io), B18 IO_B18/LVDS2K_10n (io), B19 IO_B19/LVDS2K_10p (io), B20 IO_B20/LVDS2K_11p/RZQ_2K (io), B21 IO_B21/LVDS2K_14p (io), B23 IO_B23/LVDS2K_15n (io), B24 IO_B24/LVDS2K_15p (io), B25 IO_B25/LVDS2K_18n (io), B26 IO_B26/LVDS2K_18p (io), C8 IO_C8/LVDS2K_5p (io), C10 IO_C10/LVDS2K_2n (io), C11 IO_C11/LVDS2K_3n (io), C12 IO_C12/LVDS2K_3p (io), C13 IO_C13/LVDS2K_20p (io), C15 IO_C15/LVDS2K_9n (io), C20 IO_C20/LVDS2K_11n (io), C21 IO_C21/LVDS2K_14n (io), D8 IO_D8/LVDS2K_5n (io), D9 IO_D9/LVDS2K_6p (io), D10 IO_D10/LVDS2K_6n (io), D13 IO_D13/LVDS2K_20n (io), D14 IO_D14/LVDS2K_19p (io), D15 IO_D15/CLK_2K_1p/LVDS2K_12p (io), E14 IO_E14/LVDS2K_19n (io), E15 IO_E15/CLK_2K_1n/LVDS2K_12n (io)
part E pins: AA17 IO_AA17/LVDS2J_10p/PLL_2J_CLKOUT1p (io), AA18 IO_AA18/CLK_2J_1p/LVDS2J_12p (io), AA19 IO_AA19/CLK_2J_1n/LVDS2J_12n (io), AA21 IO_AA21/LVDS2J_7p (io), AA22 IO_AA22/LVDS2J_21n (io), AA23 IO_AA23/LVDS2J_21p (io), AB18 IO_AB18/LVDS2J_9p (io), AB19 IO_AB19/LVDS2J_9n (io), AB20 IO_AB20/CLK_2J_0n/LVDS2J_13n (io), AB21 IO_AB21/LVDS2J_15n/PLL_2J_CLKOUT0n (io), AB23 IO_AB23/LVDS2J_22n (io), AC20 IO_AC20/CLK_2J_0p/LVDS2J_13p (io), AC21 IO_AC21/LVDS2J_15p/PLL_2J_CLKOUT0p (io), AC22 IO_AC22/LVDS2J_24n (io), AC23 IO_AC23/LVDS2J_22p (io), AD22 IO_AD22/LVDS2J_24p (io), AD23 IO_AD23/LVDS2J_20n (io), AE21 IO_AE21/LVDS2J_16n (io), AE22 IO_AE22/LVDS2J_23n (io), AE23 IO_AE23/LVDS2J_20p (io), AF21 IO_AF21/LVDS2J_16p (io), AF22 IO_AF22/LVDS2J_23p (io), AF23 IO_AF23/LVDS2J_19n (io), AG9 IO_AG9/LVDS2J_1n (io), AG10 IO_AG10/LVDS2J_1p (io), AG11 IO_AG11/LVDS2J_5n (io), AG13 IO_AG13/LVDS2J_6n (io), AG19 IO_AG19/LVDS2J_18p (io), AG20 IO_AG20/LVDS2J_18n (io), AG21 IO_AG21/LVDS2J_17n (io), AG23 IO_AG23/LVDS2J_19p (io), AH10 IO_AH10/LVDS2J_4n (io), AH11 IO_AH11/LVDS2J_4p (io), AH12 IO_AH12/LVDS2J_5p (io), AH13 IO_AH13/LVDS2J_6p (io), AH15 IO_AH15/LVDS2J_3n (io), AH16 IO_AH16/LVDS2J_3p (io), AH17 IO_AH17/LVDS2J_2n (io), AH18 IO_AH18/LVDS2J_2p (io), AH20 IO_AH20/LVDS2J_14n (io), AH21 IO_AH21/LVDS2J_14p (io), AH22 IO_AH22/LVDS2J_17p (io), W20 IO_W20/LVDS2J_8p (io), W21 IO_W21/LVDS2J_8n (io), Y17 IO_Y17/LVDS2J_10n/PLL_2J_CLKOUT1n (io), Y19 IO_Y19/LVDS2J_11n (io), Y20 IO_Y20/LVDS2J_11p/RZQ_2J (io), Y21 IO_Y21/LVDS2J_7n (io)
part F pins: AA11 AA11/LVDS2A_19n (io), AA12 AA12/DEV_OE/LVDS2A_23p (io), AA13 AA13/INIT_DONE/LVDS2A_23n (io), AA14 AA14/LVDS2A_20n (io), AA16 AA16/CLK_2A_0n/DATA22/LVDS2A_13n (io), AB11 AB11/nPERSTL0/LVDS2A_19p (io), AB13 AB13/CvP_CONFDONE/LVDS2A_22n (io), AB14 AB14/LVDS2A_20p (io), AB15 AB15/LVDS2A_21n (io), AB16 AB16/CLK_2A_0p/DATA23/LVDS2A_13p (io), AC11 AC11/CRC_ERROR/LVDS2A_24n (io), AC12 AC12/DEV_CLRn/LVDS2A_24p (io), AC13 AC13/LVDS2A_22p (io), AC15 AC15/LVDS2A_21p (io), AC16 AC16/DATA27/LVDS2A_15p (io), AC17 AC17/DATA26/LVDS2A_15n (io), AC18 AC18/DATA28/LVDS2A_16n (io), AD12 AD12/DATA6/LVDS2A_4n (io), AD13 AD13/DATA11/LVDS2A_6p (io), AD14 AD14/DATA10/LVDS2A_6n (io), AD15 AD15/DATA4/LVDS2A_3n (io), AD17 AD17/DATA30/LVDS2A_17n (io), AD18 AD18/DATA29/LVDS2A_16p (io), AD19 AD19/DATA24/LVDS2A_14n (io), AD20 AD20/DATA25/LVDS2A_14p (io), AE10 AE10/DATA0/LVDS2A_1n (io), AE11 AE11/DATA1/LVDS2A_1p (io), AE12 AE12/DATA7/LVDS2A_4p (io), AE14 AE14/DATA2/LVDS2A_2n (io), AE15 AE15/DATA3/LVDS2A_2p (io), AE16 AE16/DATA5/LVDS2A_3p (io), AE17 AE17/DATA31/LVDS2A_17p (io), AE19 AE19/DATA19/LVDS2A_10p (io), AE20 AE20/DATA18/LVDS2A_10n (io), AF11 AF11/DATA8/LVDS2A_5n (io), AF12 AF12/DATA9/LVDS2A_5p (io), AF13 AF13/DATA17/LVDS2A_9p (io), AF14 AF14/DATA16/LVDS2A_9n (io), AF16 AF16/nCEO/LVDS2A_11n (io), AF17 AF17/DATA15/LVDS2A_8p (io), AF18 AF18/DATA14/LVDS2A_8n (io), AF19 AF19/DATA12/LVDS2A_7n (io), AG14 AG14/CLK_2A_1p/DATA21/LVDS2A_12p (io), AG15 AG15/CLK_2A_1n/DATA20/LVDS2A_12n (io), AG16 AG16/RZQ_2A/LVDS2A_11p (io), AG18 AG18/DATA13/LVDS2A_7p (io), Y15 Y15/CLKUSR/LVDS2A_18n (io), Y16 Y16/LVDS2A_18p (io)
part G pins: G1 IO_G1/LVDS3B_14n (io), H1 IO_H1/LVDS3B_14p (io), H2 IO_H2/LVDS3B_10p (io), J2 IO_J2/LVDS3B_11n (io), J3 IO_J3/LVDS3B_10n (io), K1 IO_K1/LVDS3B_17n (io), K2 IO_K2/LVDS3B_11p/RZQ_3B (io), K4 IO_K4/LVDS3B_8p (io), L1 IO_L1/LVDS3B_17p (io), L2 IO_L2/CLK_3B_1p/LVDS3B_12p (io), L3 IO_L3/CLK_3B_1n/LVDS3B_12n (io), L4 IO_L4/LVDS3B_8n (io), M1 IO_M1/CLK_3B_0n/LVDS3B_13n (io), M3 IO_M3/LVDS3B_7p (io), M4 IO_M4/LVDS3B_7n (io), N1 IO_N1/CLK_3B_0p/LVDS3B_13p (io), N2 IO_N2/LVDS3B_9p (io), N3 IO_N3/LVDS3B_9n (io), P2 IO_P2/LVDS3B_15n (io), P3 IO_P3/LVDS3B_1p (io), P4 IO_P4/LVDS3B_1n (io), R1 IO_R1/LVDS3B_18n (io), R2 IO_R2/LVDS3B_15p (io), R4 IO_R4/LVDS3B_4p (io), R5 IO_R5/LVDS3B_4n (io), T1 IO_T1/LVDS3B_18p (io), T2 IO_T2/LVDS3B_16p (io), T3 IO_T3/LVDS3B_16n (io), T4 IO_T4/LVDS3B_5p (io), T6 IO_T6/LVDS3B_3p (io), T7 IO_T7/LVDS3B_3n (io), T8 IO_T8/LVDS3B_2p (io), T9 IO_T9/LVDS3B_2n (io), U1 IO_U1/LVDS3B_20n (io), U3 IO_U3/LVDS3B_19p (io), U4 IO_U4/LVDS3B_19n (io), U5 IO_U5/LVDS3B_5n (io), U6 IO_U6/LVDS3B_21p (io), U8 IO_U8/LVDS3B_6p (io), V1 IO_V1/LVDS3B_20p (io), V2 IO_V2/LVDS3B_23n (io), V3 IO_V3/LVDS3B_24n (io), V5 IO_V5/LVDS3B_22p (io), V6 IO_V6/LVDS3B_22n (io), V7 IO_V7/LVDS3B_21n (io), V8 IO_V8/LVDS3B_6n (io), W2 IO_W2/LVDS3B_23p (io), W3 IO_W3/LVDS3B_24p (io)
part H pins: AA1 IO_AA1/LVDS3A_8n (io), AA2 IO_AA2/PLL_3A_CLKOUT1p/LVDS3A_10p (io), AA3 IO_AA3/RZQ_3A/LVDS3A_11p (io), AA4 IO_AA4/LVDS3A_11n (io), AA6 IO_AA6/CLK_3A_1p/LVDS3A_12p (io), AA7 IO_AA7/CLK_3A_1n/LVDS3A_12n (io), AA8 IO_AA8/LVDS3A_6n (io), AA9 IO_AA9/LVDS3A_6p (io), AB1 IO_AB1/LVDS3A_8p (io), AB3 IO_AB3/PLL_3A_CLKOUT1n/LVDS3A_10n (io), AB4 IO_AB4/LVDS3A_7n (io), AB5 IO_AB5/LVDS3A_9n (io), AB6 IO_AB6/LVDS3A_9p (io), AC1 IO_AC1/PLL_3A_CLKOUT0p/LVDS3A_15p (io), AC2 IO_AC2/PLL_3A_CLKOUT0n/LVDS3A_15n (io), AC3 IO_AC3/CLK_3A_0n/LVDS3A_13n (io), AC5 IO_AC5/LVDS3A_7p (io), AC6 IO_AC6/LVDS3A_21p (io), AC7 IO_AC7/LVDS3A_21n (io), AD2 IO_AD2/LVDS3A_16n (io), AD3 IO_AD3/CLK_3A_0p/LVDS3A_13p (io), AD4 IO_AD4/LVDS3A_20n (io), AE1 IO_AE1/LVDS3A_14p (io), AE2 IO_AE2/LVDS3A_16p (io), AE4 IO_AE4/LVDS3A_20p (io), AE6 IO_AE6/LVDS3A_22n (io), AF1 IO_AF1/LVDS3A_17n (io), AF2 IO_AF2/LVDS3A_14n (io), AF3 IO_AF3/LVDS3A_18n (io), AF6 IO_AF6/LVDS3A_22p (io), AG1 IO_AG1/LVDS3A_17p (io), AG3 IO_AG3/LVDS3A_18p (io), AH2 IO_AH2/LVDS3A_19p (io), AH3 IO_AH3/LVDS3A_19n (io), W4 IO_W4/LVDS3A_1p (io), W5 IO_W5/LVDS3A_4p (io), W7 IO_W7/LVDS3A_2n (io), W8 IO_W8/LVDS3A_2p (io), Y1 IO_Y1/LVDS3A_5p (io), Y2 IO_Y2/LVDS3A_5n (io), Y4 IO_Y4/LVDS3A_1n (io), Y5 IO_Y5/LVDS3A_4n (io), Y6 IO_Y6/LVDS3A_3n (io), Y7 IO_Y7/LVDS3A_3p (io)
part I pins: A2 NC (hiz), A3 NC (hiz), A4 NC (hiz), A6 NC (hiz), A7 NC (hiz), AB8 MSEL2 (in), AB9 nCE (in), AC8 nCONFIG (in), AC10 TDI (in), AD5 NC (hiz), AD7 MSEL1 (in), AD8 nIO_PULLUP (in), AD9 DCLK (in), AE5 NC (hiz), AE7 MSEL0 (in), AE9 AS_DATA0,ASDO (in), AF4 NC (hiz), AF7 nSTATUS (out), AF8 TRST (in), AF9 nCSO2 (out), AG4 NC (hiz), AG5 AS_DATA2 (in), AG6 AS_DATA1 (in), AG8 CONF_DONE (out), AH5 AS_DATA3 (in), AH6 TMS (io), AH7 nCSO1 (out), AH8 nCSO0 (out), B1 NC (hiz), B3 NC (hiz), B4 NC (hiz), B5 NC (hiz), B6 NC (hiz), C1 NC (hiz), C2 NC (hiz), C3 NC (hiz), C5 NC (hiz), C6 NC (hiz), C7 NC (hiz), D2 NC (hiz), D3 NC (hiz), D4 NC (hiz), D5 NC (hiz), D7 NC (hiz), D12 NC (hiz), E1 NC (hiz), E2 NC (hiz), E4 NC (hiz), E5 NC (hiz), E6 NC (hiz), E7 NC (hiz), E12 NC (hiz), F1 NC (hiz), F2 NC (hiz), F3 NC (hiz), F4 NC (hiz), F6 NC (hiz), F7 NC (hiz), F8 NC (hiz), F9 NC (hiz), F12 NC (hiz), F13 NC (hiz), F14 NC (hiz), F16 NC (hiz), G3 NC (hiz), G4 NC (hiz), G5 NC (hiz), G6 NC (hiz), G7 NC (hiz), G8 NC (hiz), G9 NC (hiz), G13 NC (hiz), G14 NC (hiz), G15 NC (hiz), G16 NC (hiz), H3 NC (hiz), H5 NC (hiz), H6 NC (hiz), H7 NC (hiz), H8 NC (hiz), H9 NC (hiz), H12 NC (hiz), H15 NC (hiz), J4 NC (hiz), J5 NC (hiz), J7 NC (hiz), J8 NC (hiz), J9 NC (hiz), J12 NC (hiz), J15 NC (hiz), K5 NC (hiz), K6 NC (hiz), K7 NC (hiz), K8 NC (hiz), K9 NC (hiz), K11 NC (hiz), K12 NC (hiz), K15 NC (hiz), L5 NC (hiz), L6 NC (hiz), L7 NC (hiz), L8 NC (hiz), L9 NC (hiz), M5 NC (hiz), M6 NC (hiz), M7 NC (hiz), M8 NC (hiz), M9 NC (hiz), N5 NC (hiz), N6 NC (hiz), N7 NC (hiz), N8 NC (hiz), P5 NC (hiz), P6 NC (hiz), P7 NC (hiz), P8 NC (hiz), P9 NC (hiz), R6 NC (hiz), R7 NC (hiz), R9 NC (hiz), W10 TDO (out), Y9 TCK (in)
part J pins: A5 GND (power), A10 GND (power), A15 GND (power), A20 GND (power), A25 GND (power), AA10 GND (power), AA24 GND (power), AA25 GND (power), AA26 GND (power), AB2 GND (power), AB7 GND (power), AB10 GND (power), AB17 GND (power), AB22 GND (power), AB24 GND (power), AB27 GND (power), AB28 GND (power), AC4 GND (power), AC9 GND (power), AC24 GND (power), AC25 GND (power), AC26 GND (power), AD1 GND (power), AD6 GND (power), AD10 GND (power), AD11 GND (power), AD16 GND (power), AD21 GND (power), AD24 GND (power), AD27 GND (power), AD28 GND (power), AE3 GND (power), AE8 GND (power), AE13 GND (power), AE18 GND (power), AE24 GND (power), AE25 GND (power), AE26 GND (power), AF5 GND (power), AF10 GND (power), AF15 GND (power), AF20 GND (power), AF24 GND (power), AF27 GND (power), AF28 GND (power), AG2 GND (power), AG7 GND (power), AG12 GND (power), AG17 GND (power), AG22 GND (power), AG24 GND (power), AG25 GND (power), AG26 GND (power), AH4 GND (power), AH9 GND (power), AH14 GND (power), AH19 GND (power), AH26 GND (power), AH27 GND (power), B2 GND (power), B7 GND (power), B17 GND (power), B22 GND (power), B27 GND (power), B28 GND (power), C4 GND (power), C9 GND (power), C19 GND (power), C24 GND (power), C25 GND (power), C26 GND (power), C27 GND (power), D1 GND (power), D6 GND (power), D11 GND (power), D16 GND (power), D21 GND (power), D24 GND (power), D27 GND (power), D28 GND (power), E3 GND (power), E8 GND (power), E13 GND (power), E24 GND (power), E25 GND (power), E26 GND (power), F5 GND (power), F10 GND (power), F20 GND (power), F24 GND (power), F27 GND (power), F28 GND (power), G2 GND (power), G10 ADCGND (power), G12 GND (power), G17 GND (power), G22 GND (power), G24 GND (power), G25 GND (power), G26 GND (power), H4 GND (power), H13 GND (power), H14 GND (power), H24 GND (power), H27 GND (power), H28 GND (power), J1 GND (power), J6 GND (power), J11 GND (power), J13 GND (power), J14 GND (power), J16 GND (power), J21 GND (power), J24 GND (power), J25 GND (power), J26 GND (power), K3 GND (power), K13 GND (power), K14 GND (power), K24 GND (power), K27 GND (power), K28 GND (power), L10 GND (power), L13 GND (power), L14 GND (power), L15 GND (power), L20 GND (power), L21 GND (power), L22 GND (power), L23 GND (power), L24 GND (power), L25 GND (power), L26 GND (power), M2 GND (power), M12 GND (power), M13 GND (power), M17 GND (power), M21 GND (power), M27 GND (power), M28 GND (power), N4 GND (power), N9 GND (power), N14 GND (power), N19 GND (power), N21 GND (power), N22 GND (power), N25 GND (power), N26 GND (power), P1 GND (power), P11 GND (power), P16 GND (power), P21 GND (power), P22 GND (power), P27 GND (power), P28 GND (power), R3 GND (power), R8 GND (power), R13 GND (power), R18 GND (power), R21 GND (power), R22 GND (power), R25 GND (power), R26 GND (power), T10 GND (power), T12 GNDSENSE (power), T15 GND (power), T20 GND (power), T21 GND (power), T27 GND (power), T28 GND (power), U2 GND (power), U12 GND (power), U17 GND (power), U21 GND (power), U22 GND (power), U25 GND (power), U26 GND (power), V9 GND (power), V14 GND (power), V19 GND (power), V21 GND (power), V22 GND (power), V27 GND (power), V28 GND (power), W1 GND (power), W11 GND (power), W16 GND (power), W22 GND (power), W25 GND (power), W26 GND (power), Y3 GND (power), Y13 GND (power), Y22 GND (power), Y23 GND (power), Y24 GND (power), Y27 GND (power), Y28 GND (power)
part K pins: AA5 VCCIO3A (power), AA15 VCCIO2A (power), AA20 VCCIO2J (power), AB12 VCCIO2A (power), AC14 VCCIO2A (power), AC19 VCCIO2J (power), AH23 DNU (power), AH24 DNU (power), AH25 RREF_BL (power), B12 VCCIO2K (power), C14 VCCIO2K (power), C28 RREF_TL (power), E9 VREFB2KN0 (power), E10 VSIGP_0 (power), E11 VSIGN_0 (power), E18 VCCIO2L (power), F11 VSIGP_1 (power), F15 VCCIO2K (power), G11 VSIGN_1 (power), H10 TEMPDIODEn (power), H11 TEMPDIODEp (power), H19 VCCIO2L (power), J10 VREFN_ADC (power), K10 VREFP_ADC (power), K16 VREFB2LN0 (power), K18 VCCIO2L (power), L11 VCC (power), L12 VCC (power), L16 VCC (power), L17 VCC (power), L18 VCC (power), L19 VCC (power), M10 VCC (power), M11 VCC (power), M14 VCCPT (power), M15 VCC (power), M16 VCC (power), M18 VCCPT (power), M19 VCC (power), M20 VCC (power), M22 VCCH_GXBL (power), M23 VCCT_GXBL1D (power), M24 VCCT_GXBL1D (power), N10 VCC (power), N11 VCCP (power), N12 VCC (power), N13 VCC (power), N15 VCC (power), N16 VCC (power), N17 VCCP (power), N18 VCC (power), N20 VCC (power), P10 VCC (power), P12 VCC (power), P13 VCCA_PLL (power), P14 VCC (power), P15 VCCA_PLL (power), P17 VCC (power), P18 VCC (power), P19 VCC (power), P20 VCC (power), P23 VCCR_GXBL1D (power), P24 VCCR_GXBL1D (power), R10 VCC (power), R11 VCC (power), R12 VCCERAM (power), R14 VCC (power), R15 VCC (power), R16 VCC (power), R17 VCCERAM (power), R19 VCC (power), R20 VCC (power), T5 VCCIO3B (power), T11 VCC (power), T13 VCCLSENSE (power), T14 VCC (power), T16 VCC (power), T17 VCC (power), T18 VCC (power), T19 VCC (power), T22 VCCH_GXBL (power), T23 VCCT_GXBL1C (power), T24 VCCT_GXBL1C (power), U7 VCCIO3B (power), U9 VREFB3BN0 (power), U10 VCC (power), U11 VCCP (power), U13 VCCP (power), U14 VCC (power), U15 VCC (power), U16 VCCP (power), U18 VCC (power), U19 VCC (power), U20 VCC (power), V4 VCCIO3B (power), V10 VCC (power), V11 VCC (power), V12 VCCPT (power), V13 VCC (power), V15 VCC (power), V16 VCC (power), V17 VCC (power), V18 VCCPT (power), V20 VCC (power), V23 VCCR_GXBL1C (power), V24 VCCR_GXBL1C (power), W6 VCCIO3A (power), W9 VREFB3AN0 (power), W12 VCC (power), W13 VCCBAT (power), W14 VCCPGM (power), W15 VREFB2AN0 (power), W17 VREFB2JN0 (power), W18 VCC (power), W19 VCC (power), Y8 VCCIO3A (power), Y10 DNU (power), Y11 DNU (power), Y12 DNU (power), Y14 VCCPGM (power), Y18 VCCIO2J (power)
part A text: Intel Cyclone10 GX 10CX220YF780I5G; BANK 1D
part B text: Intel Cyclone10 GX 10CX220YF780I5G; BANK 1C
part C text: Intel Cyclone10 GX 10CX220YF780I5G; BANK 2L
part D text: Intel Cyclone10 GX 10CX220YF780I5G; BANK 2K
part E text: Intel Cyclone10 GX 10CX220YF780I5G; BANK 2J
part F text: Intel Cyclone10 GX 10CX220YF780I5G; BANK 2A
part G text: Intel Cyclone10 GX 10CX220YF780I5G; BANK 3B
part H text: Intel Cyclone10 GX 10CX220YF780I5G; BANK 3A
part I text: Intel Cyclone10 GX 10CX220YF780I5G; System
part J text: Intel Cyclone10 GX 10CX220YF780I5G; Power Ground
part K text: Intel Cyclone10 GX 10CX220YF780I5G; Power Supply

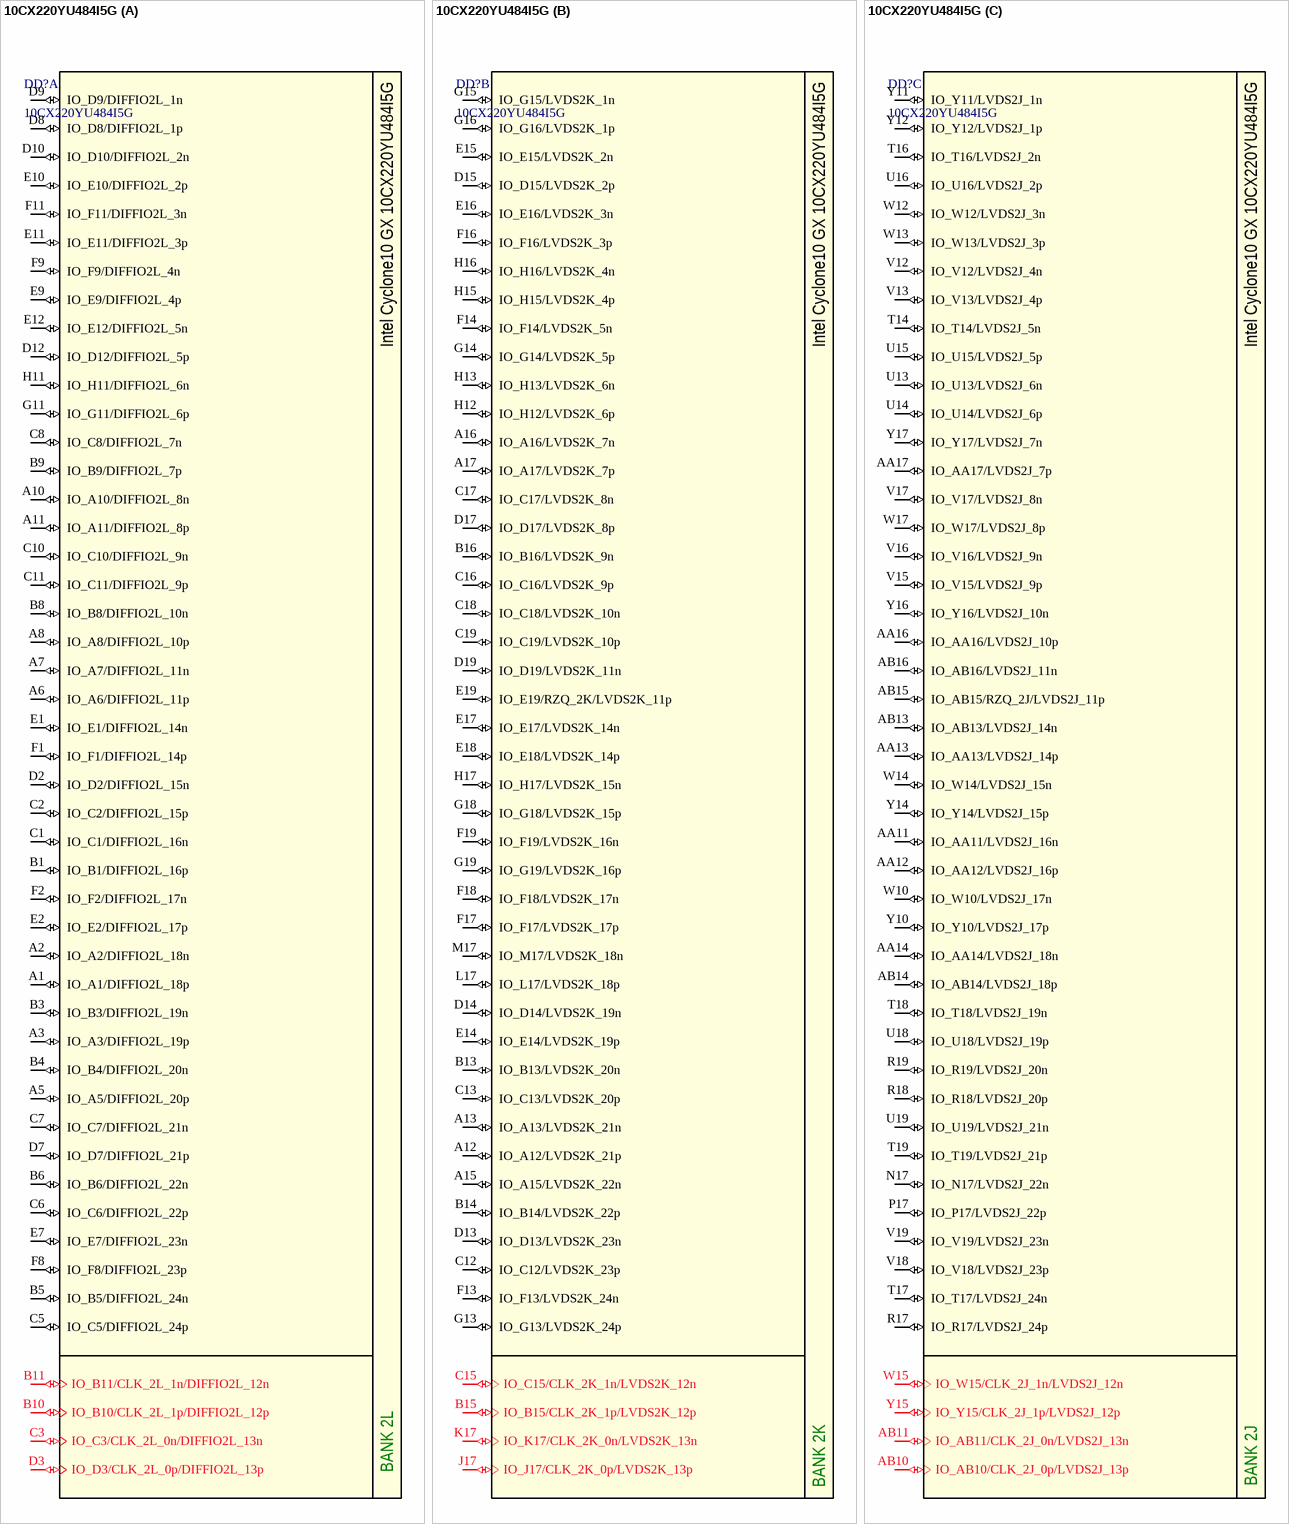
[diagram p20: symbol 10CX220YU484I5G]

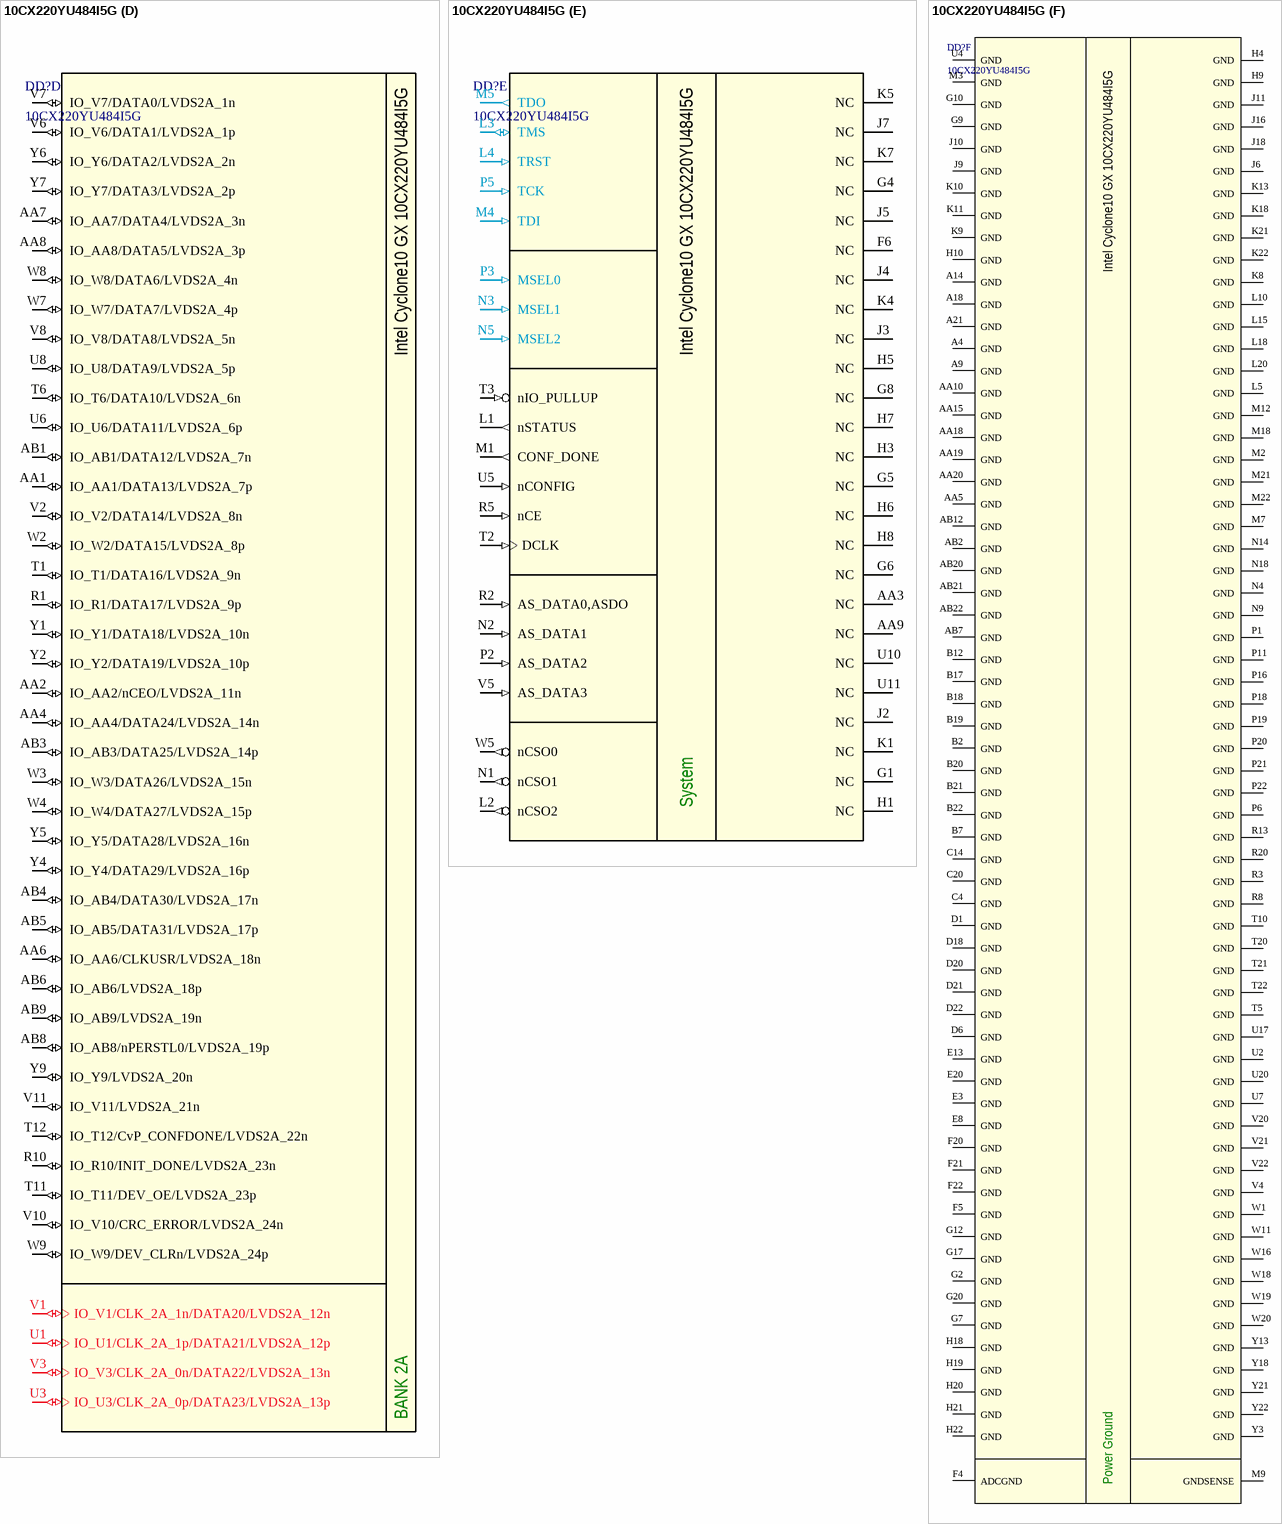
[diagram p21: symbol 10CX220YU484I5G]

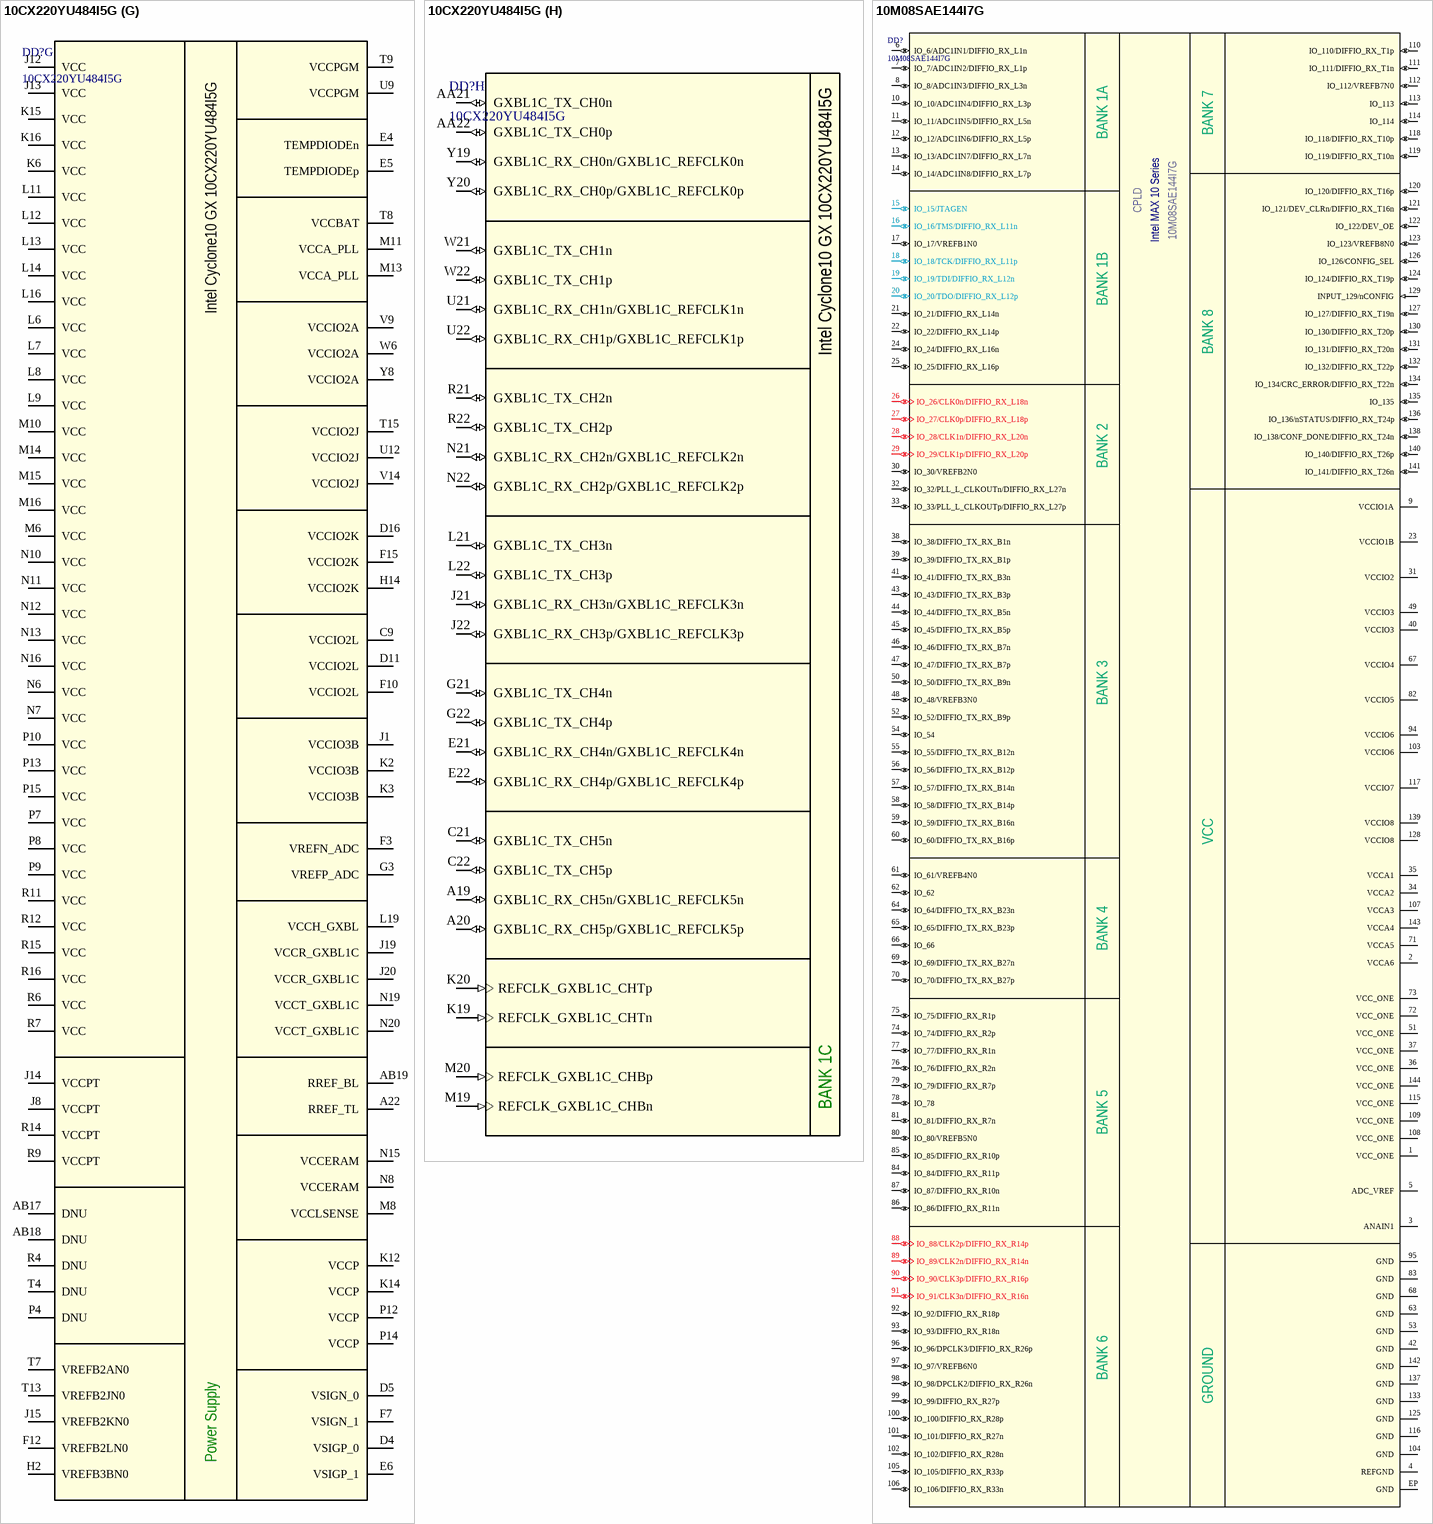
[diagram p22: symbols 10CX220YU484I5G to 10M08SAE144I7G]

## 10CX220YU484I5G
designator DD?
Intel Cyclone 10 FPGA with 220k LEs; Manufacturer: Altera/Intel; Package: UBGA-484; Part Number: 10CX220YU484I5G
footprint UBGA-484 (UBGA-484 package with 0.8mm pitch)
part A pins: A1 IO_A1/DIFFIO2L_18p (io), A2 IO_A2/DIFFIO2L_18n (io), A3 IO_A3/DIFFIO2L_19p (io), A5 IO_A5/DIFFIO2L_20p (io), A6 IO_A6/DIFFIO2L_11p (io), A7 IO_A7/DIFFIO2L_11n (io), A8 IO_A8/DIFFIO2L_10p (io), A10 IO_A10/DIFFIO2L_8n (io), A11 IO_A11/DIFFIO2L_8p (io), B1 IO_B1/DIFFIO2L_16p (io), B3 IO_B3/DIFFIO2L_19n (io), B4 IO_B4/DIFFIO2L_20n (io), B5 IO_B5/DIFFIO2L_24n (io), B6 IO_B6/DIFFIO2L_22n (io), B8 IO_B8/DIFFIO2L_10n (io), B9 IO_B9/DIFFIO2L_7p (io), B10 IO_B10/CLK_2L_1p/DIFFIO2L_12p (io), B11 IO_B11/CLK_2L_1n/DIFFIO2L_12n (io), C1 IO_C1/DIFFIO2L_16n (io), C2 IO_C2/DIFFIO2L_15p (io), C3 IO_C3/CLK_2L_0n/DIFFIO2L_13n (io), C5 IO_C5/DIFFIO2L_24p (io), C6 IO_C6/DIFFIO2L_22p (io), C7 IO_C7/DIFFIO2L_21n (io), C8 IO_C8/DIFFIO2L_7n (io), C10 IO_C10/DIFFIO2L_9n (io), C11 IO_C11/DIFFIO2L_9p (io), D2 IO_D2/DIFFIO2L_15n (io), D3 IO_D3/CLK_2L_0p/DIFFIO2L_13p (io), D7 IO_D7/DIFFIO2L_21p (io), D8 IO_D8/DIFFIO2L_1p (io), D9 IO_D9/DIFFIO2L_1n (io), D10 IO_D10/DIFFIO2L_2n (io), D12 IO_D12/DIFFIO2L_5p (io), E1 IO_E1/DIFFIO2L_14n (io), E2 IO_E2/DIFFIO2L_17p (io), E7 IO_E7/DIFFIO2L_23n (io), E9 IO_E9/DIFFIO2L_4p (io), E10 IO_E10/DIFFIO2L_2p (io), E11 IO_E11/DIFFIO2L_3p (io), E12 IO_E12/DIFFIO2L_5n (io), F1 IO_F1/DIFFIO2L_14p (io), F2 IO_F2/DIFFIO2L_17n (io), F8 IO_F8/DIFFIO2L_23p (io), F9 IO_F9/DIFFIO2L_4n (io), F11 IO_F11/DIFFIO2L_3n (io), G11 IO_G11/DIFFIO2L_6p (io), H11 IO_H11/DIFFIO2L_6n (io)
part B pins: A12 IO_A12/LVDS2K_21p (io), A13 IO_A13/LVDS2K_21n (io), A15 IO_A15/LVDS2K_22n (io), A16 IO_A16/LVDS2K_7n (io), A17 IO_A17/LVDS2K_7p (io), B13 IO_B13/LVDS2K_20n (io), B14 IO_B14/LVDS2K_22p (io), B15 IO_B15/CLK_2K_1p/LVDS2K_12p (io), B16 IO_B16/LVDS2K_9n (io), C12 IO_C12/LVDS2K_23p (io), C13 IO_C13/LVDS2K_20p (io), C15 IO_C15/CLK_2K_1n/LVDS2K_12n (io), C16 IO_C16/LVDS2K_9p (io), C17 IO_C17/LVDS2K_8n (io), C18 IO_C18/LVDS2K_10n (io), C19 IO_C19/LVDS2K_10p (io), D13 IO_D13/LVDS2K_23n (io), D14 IO_D14/LVDS2K_19n (io), D15 IO_D15/LVDS2K_2p (io), D17 IO_D17/LVDS2K_8p (io), D19 IO_D19/LVDS2K_11n (io), E14 IO_E14/LVDS2K_19p (io), E15 IO_E15/LVDS2K_2n (io), E16 IO_E16/LVDS2K_3n (io), E17 IO_E17/LVDS2K_14n (io), E18 IO_E18/LVDS2K_14p (io), E19 IO_E19/RZQ_2K/LVDS2K_11p (io), F13 IO_F13/LVDS2K_24n (io), F14 IO_F14/LVDS2K_5n (io), F16 IO_F16/LVDS2K_3p (io), F17 IO_F17/LVDS2K_17p (io), F18 IO_F18/LVDS2K_17n (io), F19 IO_F19/LVDS2K_16n (io), G13 IO_G13/LVDS2K_24p (io), G14 IO_G14/LVDS2K_5p (io), G15 IO_G15/LVDS2K_1n (io), G16 IO_G16/LVDS2K_1p (io), G18 IO_G18/LVDS2K_15p (io), G19 IO_G19/LVDS2K_16p (io), H12 IO_H12/LVDS2K_6p (io), H13 IO_H13/LVDS2K_6n (io), H15 IO_H15/LVDS2K_4p (io), H16 IO_H16/LVDS2K_4n (io), H17 IO_H17/LVDS2K_15n (io), J17 IO_J17/CLK_2K_0p/LVDS2K_13p (io), K17 IO_K17/CLK_2K_0n/LVDS2K_13n (io), L17 IO_L17/LVDS2K_18p (io), M17 IO_M17/LVDS2K_18n (io)
part C pins: AA11 IO_AA11/LVDS2J_16n (io), AA12 IO_AA12/LVDS2J_16p (io), AA13 IO_AA13/LVDS2J_14p (io), AA14 IO_AA14/LVDS2J_18n (io), AA16 IO_AA16/LVDS2J_10p (io), AA17 IO_AA17/LVDS2J_7p (io), AB10 IO_AB10/CLK_2J_0p/LVDS2J_13p (io), AB11 IO_AB11/CLK_2J_0n/LVDS2J_13n (io), AB13 IO_AB13/LVDS2J_14n (io), AB14 IO_AB14/LVDS2J_18p (io), AB15 IO_AB15/RZQ_2J/LVDS2J_11p (io), AB16 IO_AB16/LVDS2J_11n (io), N17 IO_N17/LVDS2J_22n (io), P17 IO_P17/LVDS2J_22p (io), R17 IO_R17/LVDS2J_24p (io), R18 IO_R18/LVDS2J_20p (io), R19 IO_R19/LVDS2J_20n (io), T14 IO_T14/LVDS2J_5n (io), T16 IO_T16/LVDS2J_2n (io), T17 IO_T17/LVDS2J_24n (io), T18 IO_T18/LVDS2J_19n (io), T19 IO_T19/LVDS2J_21p (io), U13 IO_U13/LVDS2J_6n (io), U14 IO_U14/LVDS2J_6p (io), U15 IO_U15/LVDS2J_5p (io), U16 IO_U16/LVDS2J_2p (io), U18 IO_U18/LVDS2J_19p (io), U19 IO_U19/LVDS2J_21n (io), V12 IO_V12/LVDS2J_4n (io), V13 IO_V13/LVDS2J_4p (io), V15 IO_V15/LVDS2J_9p (io), V16 IO_V16/LVDS2J_9n (io), V17 IO_V17/LVDS2J_8n (io), V18 IO_V18/LVDS2J_23p (io), V19 IO_V19/LVDS2J_23n (io), W10 IO_W10/LVDS2J_17n (io), W12 IO_W12/LVDS2J_3n (io), W13 IO_W13/LVDS2J_3p (io), W14 IO_W14/LVDS2J_15n (io), W15 IO_W15/CLK_2J_1n/LVDS2J_12n (io), W17 IO_W17/LVDS2J_8p (io), Y10 IO_Y10/LVDS2J_17p (io), Y11 IO_Y11/LVDS2J_1n (io), Y12 IO_Y12/LVDS2J_1p (io), Y14 IO_Y14/LVDS2J_15p (io), Y15 IO_Y15/CLK_2J_1p/LVDS2J_12p (io), Y16 IO_Y16/LVDS2J_10n (io), Y17 IO_Y17/LVDS2J_7n (io)
part D pins: AA1 IO_AA1/DATA13/LVDS2A_7p (io), AA2 IO_AA2/nCEO/LVDS2A_11n (io), AA4 IO_AA4/DATA24/LVDS2A_14n (io), AA6 IO_AA6/CLKUSR/LVDS2A_18n (io), AA7 IO_AA7/DATA4/LVDS2A_3n (io), AA8 IO_AA8/DATA5/LVDS2A_3p (io), AB1 IO_AB1/DATA12/LVDS2A_7n (io), AB3 IO_AB3/DATA25/LVDS2A_14p (io), AB4 IO_AB4/DATA30/LVDS2A_17n (io), AB5 IO_AB5/DATA31/LVDS2A_17p (io), AB6 IO_AB6/LVDS2A_18p (io), AB8 IO_AB8/nPERSTL0/LVDS2A_19p (io), AB9 IO_AB9/LVDS2A_19n (io), R1 IO_R1/DATA17/LVDS2A_9p (io), R10 IO_R10/INIT_DONE/LVDS2A_23n (io), T1 IO_T1/DATA16/LVDS2A_9n (io), T6 IO_T6/DATA10/LVDS2A_6n (io), T11 IO_T11/DEV_OE/LVDS2A_23p (io), T12 IO_T12/CvP_CONFDONE/LVDS2A_22n (io), U1 IO_U1/CLK_2A_1p/DATA21/LVDS2A_12p (io), U3 IO_U3/CLK_2A_0p/DATA23/LVDS2A_13p (io), U6 IO_U6/DATA11/LVDS2A_6p (io), U8 IO_U8/DATA9/LVDS2A_5p (io), V1 IO_V1/CLK_2A_1n/DATA20/LVDS2A_12n (io), V2 IO_V2/DATA14/LVDS2A_8n (io), V3 IO_V3/CLK_2A_0n/DATA22/LVDS2A_13n (io), V6 IO_V6/DATA1/LVDS2A_1p (io), V7 IO_V7/DATA0/LVDS2A_1n (io), V8 IO_V8/DATA8/LVDS2A_5n (io), V10 IO_V10/CRC_ERROR/LVDS2A_24n (io), V11 IO_V11/LVDS2A_21n (io), W2 IO_W2/DATA15/LVDS2A_8p (io), W3 IO_W3/DATA26/LVDS2A_15n (io), W4 IO_W4/DATA27/LVDS2A_15p (io), W7 IO_W7/DATA7/LVDS2A_4p (io), W8 IO_W8/DATA6/LVDS2A_4n (io), W9 IO_W9/DEV_CLRn/LVDS2A_24p (io), Y1 IO_Y1/DATA18/LVDS2A_10n (io), Y2 IO_Y2/DATA19/LVDS2A_10p (io), Y4 IO_Y4/DATA29/LVDS2A_16p (io), Y5 IO_Y5/DATA28/LVDS2A_16n (io), Y6 IO_Y6/DATA2/LVDS2A_2n (io), Y7 IO_Y7/DATA3/LVDS2A_2p (io), Y9 IO_Y9/LVDS2A_20n (io)
part E pins: AA3 NC (hiz), AA9 NC (hiz), F6 NC (hiz), G1 NC (hiz), G4 NC (hiz), G5 NC (hiz), G6 NC (hiz), G8 NC (hiz), H1 NC (hiz), H3 NC (hiz), H5 NC (hiz), H6 NC (hiz), H7 NC (hiz), H8 NC (hiz), J2 NC (hiz), J3 NC (hiz), J4 NC (hiz), J5 NC (hiz), J7 NC (hiz), K1 NC (hiz), K4 NC (hiz), K5 NC (hiz), K7 NC (hiz), L1 nSTATUS (out), L2 nCSO2 (out), L3 TMS (io), L4 TRST (in), M1 CONF_DONE (out), M4 TDI (in), M5 TDO (out), N1 nCSO1 (out), N2 AS_DATA1 (in), N3 MSEL1 (in), N5 MSEL2 (in), P2 AS_DATA2 (in), P3 MSEL0 (in), P5 TCK (in), R2 AS_DATA0,ASDO (in), R5 nCE (in), T2 DCLK (in), T3 nIO_PULLUP (in), U5 nCONFIG (in), U10 NC (hiz), U11 NC (hiz), V5 AS_DATA3 (in), W5 nCSO0 (out)
part F pins: A4 GND (power), A9 GND (power), A14 GND (power), A18 GND (power), A21 GND (power), AA5 GND (power), AA10 GND (power), AA15 GND (power), AA18 GND (power), AA19 GND (power), AA20 GND (power), AB2 GND (power), AB7 GND (power), AB12 GND (power), AB20 GND (power), AB21 GND (power), AB22 GND (power), B2 GND (power), B7 GND (power), B12 GND (power), B17 GND (power), B18 GND (power), B19 GND (power), B20 GND (power), B21 GND (power), B22 GND (power), C4 GND (power), C14 GND (power), C20 GND (power), D1 GND (power), D6 GND (power), D18 GND (power), D20 GND (power), D21 GND (power), D22 GND (power), E3 GND (power), E8 GND (power), E13 GND (power), E20 GND (power), F4 ADCGND (power), F5 GND (power), F20 GND (power), F21 GND (power), F22 GND (power), G2 GND (power), G7 GND (power), G9 GND (power), G10 GND (power), G12 GND (power), G17 GND (power), G20 GND (power), H4 GND (power), H9 GND (power), H10 GND (power), H18 GND (power), H19 GND (power), H20 GND (power), H21 GND (power), H22 GND (power), J6 GND (power), J9 GND (power), J10 GND (power), J11 GND (power), J16 GND (power), J18 GND (power), K8 GND (power), K9 GND (power), K10 GND (power), K11 GND (power), K13 GND (power), K18 GND (power), K21 GND (power), K22 GND (power), L5 GND (power), L10 GND (power), L15 GND (power), L18 GND (power), L20 GND (power), M2 GND (power), M3 GND (power), M7 GND (power), M9 GNDSENSE (power), M12 GND (power), M18 GND (power), M21 GND (power), M22 GND (power), N4 GND (power), N9 GND (power), N14 GND (power), N18 GND (power), P1 GND (power), P6 GND (power), P11 GND (power), P16 GND (power), P18 GND (power), P19 GND (power), P20 GND (power), P21 GND (power), P22 GND (power), R3 GND (power), R8 GND (power), R13 GND (power), R20 GND (power), T5 GND (power), T10 GND (power), T20 GND (power), T21 GND (power), T22 GND (power), U2 GND (power), U4 GND (power), U7 GND (power), U17 GND (power), U20 GND (power), V4 GND (power), V20 GND (power), V21 GND (power), V22 GND (power), W1 GND (power), W11 GND (power), W16 GND (power), W18 GND (power), W19 GND (power), W20 GND (power), Y3 GND (power), Y13 GND (power), Y18 GND (power), Y21 GND (power), Y22 GND (power)
part G pins: A22 RREF_TL (power), AB17 DNU (power), AB18 DNU (power), AB19 RREF_BL (power), C9 VCCIO2L (power), D4 VSIGP_0 (power), D5 VSIGN_0 (power), D11 VCCIO2L (power), D16 VCCIO2K (power), E4 TEMPDIODEn (power), E5 TEMPDIODEp (power), E6 VSIGP_1 (power), F3 VREFN_ADC (power), F7 VSIGN_1 (power), F10 VCCIO2L (power), F12 VREFB2LN0 (power), F15 VCCIO2K (power), G3 VREFP_ADC (power), H2 VREFB3BN0 (power), H14 VCCIO2K (power), J1 VCCIO3B (power), J8 VCCPT (power), J12 VCC (power), J13 VCC (power), J14 VCCPT (power), J15 VREFB2KN0 (power), J19 VCCR_GXBL1C (power), J20 VCCR_GXBL1C (power), K2 VCCIO3B (power), K3 VCCIO3B (power), K6 VCC (power), K12 VCCP (power), K14 VCCP (power), K15 VCC (power), K16 VCC (power), L6 VCC (power), L7 VCC (power), L8 VCC (power), L9 VCC (power), L11 VCC (power), L12 VCC (power), L13 VCC (power), L14 VCC (power), L16 VCC (power), L19 VCCH_GXBL (power), M6 VCC (power), M8 VCCLSENSE (power), M10 VCC (power), M11 VCCA_PLL (power), M13 VCCA_PLL (power), M14 VCC (power), M15 VCC (power), M16 VCC (power), N6 VCC (power), N7 VCC (power), N8 VCCERAM (power), N10 VCC (power), N11 VCC (power), N12 VCC (power), N13 VCC (power), N15 VCCERAM (power), N16 VCC (power), N19 VCCT_GXBL1C (power), N20 VCCT_GXBL1C (power), P4 DNU (power), P7 VCC (power), P8 VCC (power), P9 VCC (power), P10 VCC (power), P12 VCCP (power), P13 VCC (power), P14 VCCP (power), P15 VCC (power), R4 DNU (power), R6 VCC (power), R7 VCC (power), R9 VCCPT (power), R11 VCC (power), R12 VCC (power), R14 VCCPT (power), R15 VCC (power), R16 VCC (power), T4 DNU (power), T7 VREFB2AN0 (power), T8 VCCBAT (power), T9 VCCPGM (power), T13 VREFB2JN0 (power), T15 VCCIO2J (power), U9 VCCPGM (power), U12 VCCIO2J (power), V9 VCCIO2A (power), V14 VCCIO2J (power), W6 VCCIO2A (power), Y8 VCCIO2A (power)
part H pins: A19 GXBL1C_RX_CH5n/GXBL1C_REFCLK5n (io), A20 GXBL1C_RX_CH5p/GXBL1C_REFCLK5p (io), AA21 GXBL1C_TX_CH0n (io), AA22 GXBL1C_TX_CH0p (io), C21 GXBL1C_TX_CH5n (io), C22 GXBL1C_TX_CH5p (io), E21 GXBL1C_RX_CH4n/GXBL1C_REFCLK4n (io), E22 GXBL1C_RX_CH4p/GXBL1C_REFCLK4p (io), G21 GXBL1C_TX_CH4n (io), G22 GXBL1C_TX_CH4p (io), J21 GXBL1C_RX_CH3n/GXBL1C_REFCLK3n (io), J22 GXBL1C_RX_CH3p/GXBL1C_REFCLK3p (io), K19 REFCLK_GXBL1C_CHTn (in), K20 REFCLK_GXBL1C_CHTp (in), L21 GXBL1C_TX_CH3n (io), L22 GXBL1C_TX_CH3p (io), M19 REFCLK_GXBL1C_CHBn (in), M20 REFCLK_GXBL1C_CHBp (in), N21 GXBL1C_RX_CH2n/GXBL1C_REFCLK2n (io), N22 GXBL1C_RX_CH2p/GXBL1C_REFCLK2p (io), R21 GXBL1C_TX_CH2n (io), R22 GXBL1C_TX_CH2p (io), U21 GXBL1C_RX_CH1n/GXBL1C_REFCLK1n (io), U22 GXBL1C_RX_CH1p/GXBL1C_REFCLK1p (io), W21 GXBL1C_TX_CH1n (io), W22 GXBL1C_TX_CH1p (io), Y19 GXBL1C_RX_CH0n/GXBL1C_REFCLK0n (io), Y20 GXBL1C_RX_CH0p/GXBL1C_REFCLK0p (io)
part A text: Intel Cyclone10 GX 10CX220YU484I5G; BANK 2L
part B text: Intel Cyclone10 GX 10CX220YU484I5G; BANK 2K
part C text: Intel Cyclone10 GX 10CX220YU484I5G; BANK 2J
part D text: Intel Cyclone10 GX 10CX220YU484I5G; BANK 2A
part E text: Intel Cyclone10 GX 10CX220YU484I5G; System
part F text: Intel Cyclone10 GX 10CX220YU484I5G; Power Ground
part G text: Intel Cyclone10 GX 10CX220YU484I5G; Power Supply
part H text: Intel Cyclone10 GX 10CX220YU484I5G; BANK 1C